# Altium schematic symbol library MCU_ST_STM32MP1.SchLib: 84 symbols (part 3 of 7)
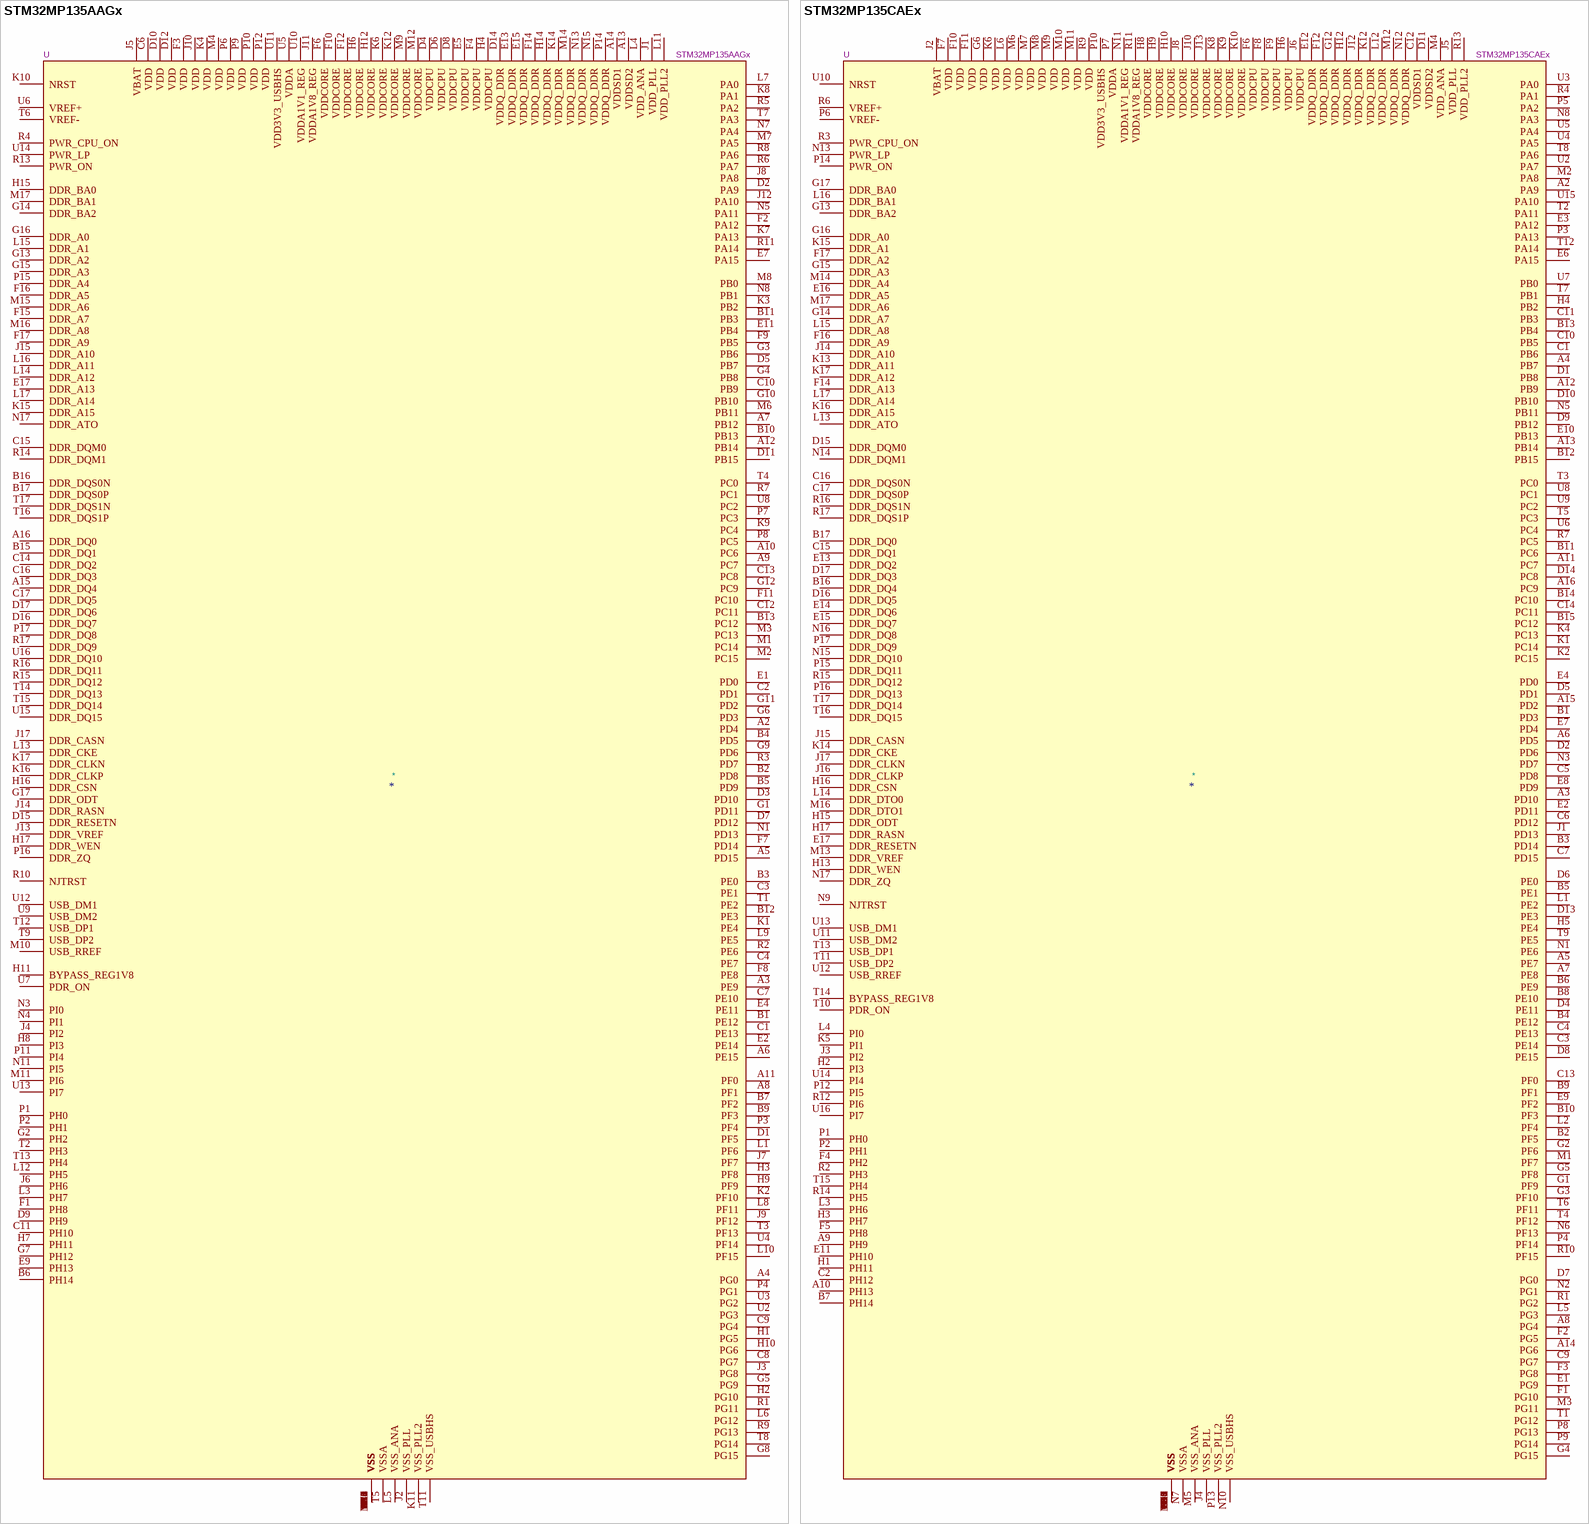
[diagram p62: symbols STM32MP135AAGx to STM32MP135CAEx]

## STM32MP135CAEx
designator *  value STM32MP135CAEx  Reference: U
STMicroelectronics Arm Cortex-A7 MCU, 0KB flash, 168KB RAM, 136 GPIO, LFBGA289; ki_keywords: Arm Cortex-A7 STM32MP1 STM32MP135; ki_fp_filters: LFBGA*14x14mm*Layout17x17*P0.8mm*; Footprint: Package_BGA:LFBGA-289_14x14mm_Layout17x17_P0.8mm; Datasheet: https://www.st.com/resource/en/datasheet/stm32mp135c.pdf; Description_: STMicroelectronics Arm Cortex-A7 MCU, 0KB flash, 168KB RAM, 136 GPIO, LFBGA289
pins: A1 VSS, A2 PA9, A3 PD10, A4 PB7, A5 PE7, A6 PD5, A7 PE8, A8 PG4, A9 PH9, A10 PH13, A11 PC7, A12 PB9, A13 PB14, A14 PG6, A15 PD2, A16 PC9, A17 VSS, B1 PD3, B2 PF5, B3 PD14, B4 PE12, B5 PE1, B6 PE9, B7 PH14, B8 PE10, B9 PF1, B10 PF3, B11 PC6, B12 PB15, B13 PB4, B14 PC10, B15 PC12, B16 DDR_DQ4, B17 DDR_DQ0, C1 PB6, C2 PH12, C3 PE14, C4 PE13, C5 PD8, C6 PD12, C7 PD15, C8 VSS, C9 PG7, C10 PB5, C11 PB3, C12 VDDSD1, C13 PF0, C14 PC11, C15 DDR_DQ1, C16 DDR_DQS0N, C17 DDR_DQS0P, D1 PB8, D2 PD6, D3 VSS, D4 PE11, D5 PD1, D6 PE0, D7 PG0, D8 PE15, D9 PB12, D10 PB10, D11 VDDSD2, D12 VSS, D13 PE3, D14 PC8, D15 DDR_DQM0, D16 DDR_DQ5, D17 DDR_DQ3, E1 PG9, E2 PD11, E3 PA12, E4 PD0, E5 VSS, E6 PA15, E7 PD4, E8 PD9, E9 PF2, E10 PB13, E11 PH10, E12 VDDQ_DDR, E13 DDR_DQ2, E14 DDR_DQ6, E15 DDR_DQ7, E16 DDR_A5, E17 DDR_RESETN, F1 PG10, F2 PG5, F3 PG8, F4 PH2, F5 PH8, F6 VDDCPU, F7 VDD, F8 VDDCPU, F9 VDDCPU, F10 VDD, F11 VDD, F12 VDDQ_DDR, F13 VSS, F14 DDR_A13, F15 VSS, F16 DDR_A9, F17 DDR_A2, G1 PF9, G2 PF6, G3 PF10, G4 PG15, G5 PF8, G6 VDD, G7 VSS, G8 VSS, G9 VSS, G10 VSS, G11 VSS, G12 VDDQ_DDR, G13 DDR_BA2, G14 DDR_A7, G15 DDR_A3, G16 DDR_A0, G17 DDR_BA0, H1 PH11, H2 PI3, H3 PH7, H4 PB2, H5 PE4, H6 VDDCPU, H7 VSS, H8 VDDCORE, H9 VDDCORE, H10 VDDCORE, H11 VSS, H12 VDDQ_DDR, H13 DDR_WEN, H14 VSS, H15 DDR_ODT, H16 DDR_CSN, H17 DDR_RASN, J1 PD13, J2 VBAT, J3 PI2, J4 VSS_PLL, J5 VDD_PLL, J6 VDDCPU, J7 VSS, J8 VDDCORE, J9 VSS, J10 VDDCORE, J11 VSS, J12 VDDQ_DDR, J13 VDDCORE, J14 DDR_A10, J15 DDR_CASN, J16 DDR_CLKP, J17 DDR_CLKN, K1 PC14, K2 PC15, K3 VSS, K4 PC13, K5 PI1, K6 VDD, K7 VSS, K8 VDDCORE, K9 VDDCORE, K10 VDDCORE, K11 VSS, K12 VDDQ_DDR, K13 DDR_A11, K14 DDR_CKE, K15 DDR_A1, K16 DDR_A15, K17 DDR_A12, L1 PE2, L2 PF4, L3 PH6, L4 PI0, L5 PG3, L6 VDD, L7 VSS, L8 VSS, L9 VSS, L10 VSS, L11 VSS, L12 VDDQ_DDR, L13 DDR_ATO, L14 DDR_DTO0, L15 DDR_A8, L16 DDR_BA1, L17 DDR_A14, M1 PF7, M2 PA8, M3 PG11, M4 VDD_ANA, M5 VSS_ANA, M6 VDD, M7 VDD, M8 VDD, M9 VDD, M10 VDD, M11 VDD, M12 VDDQ_DDR, M13 DDR_VREF, M14 DDR_A4, M15 VSS, M16 DDR_DTO1, M17 DDR_A6, N1 PE6, N2 PG1, N3 PD7, N4 VSS, N5 PB11, N6 PF13, N7 VSSA, N8 PA3, N9 NJTRST, N10 VSS_USBHS, N11 VDDA1V1_REG, N12 VDDQ_DDR, N13 PWR_LP, N14 DDR_DQM1, N15 DDR_DQ10, N16 DDR_DQ8, N17 DDR_ZQ, P1 PH0, P2 PH1, P3 PA13, P4 PF14, P5 PA2, P6 VREF-, P7 VDDA, P8 PG13, P9 PG14, P10 VDD3V3_USBHS, P11 VSS, P12 PI5, P13 VSS_PLL2, P14 PWR_ON, P15 DDR_DQ11, P16 DDR_DQ13, P17 DDR_DQ9, R1 PG2, R2 PH3, R3 PWR_CPU_ON, R4 PA1, R5 VSS, R6 VREF+, R7 PC5, R8 VSS, R9 VDD, R10 PF15, R11 VDDA1V8_REG, R12 PI6, R13 VDD_PLL2, R14 PH5, R15 DDR_DQ12, R16 DDR_DQS1N, R17 DDR_DQS1P, T1 PG12, T2 PA11, T3 PC0, T4 PF12, T5 PC3, T6 PF11, T7 PB1, T8 PA6, T9 PE5, T10 PDR_ON, T11 USB_DP2, T12 PA14, T13 USB_DP1, T14 BYPASS_REG1V8, T15 PH4, T16 DDR_DQ15, T17 DDR_DQ14, U1 VSS, U2 PA7, U3 PA0, U4 PA5, U5 PA4, U6 PC4, U7 PB0, U8 PC1, U9 PC2, U10 NRST, U11 USB_DM2, U12 USB_RREF, U13 USB_DM1, U14 PI4, U15 PA10, U16 PI7, U17 VSS

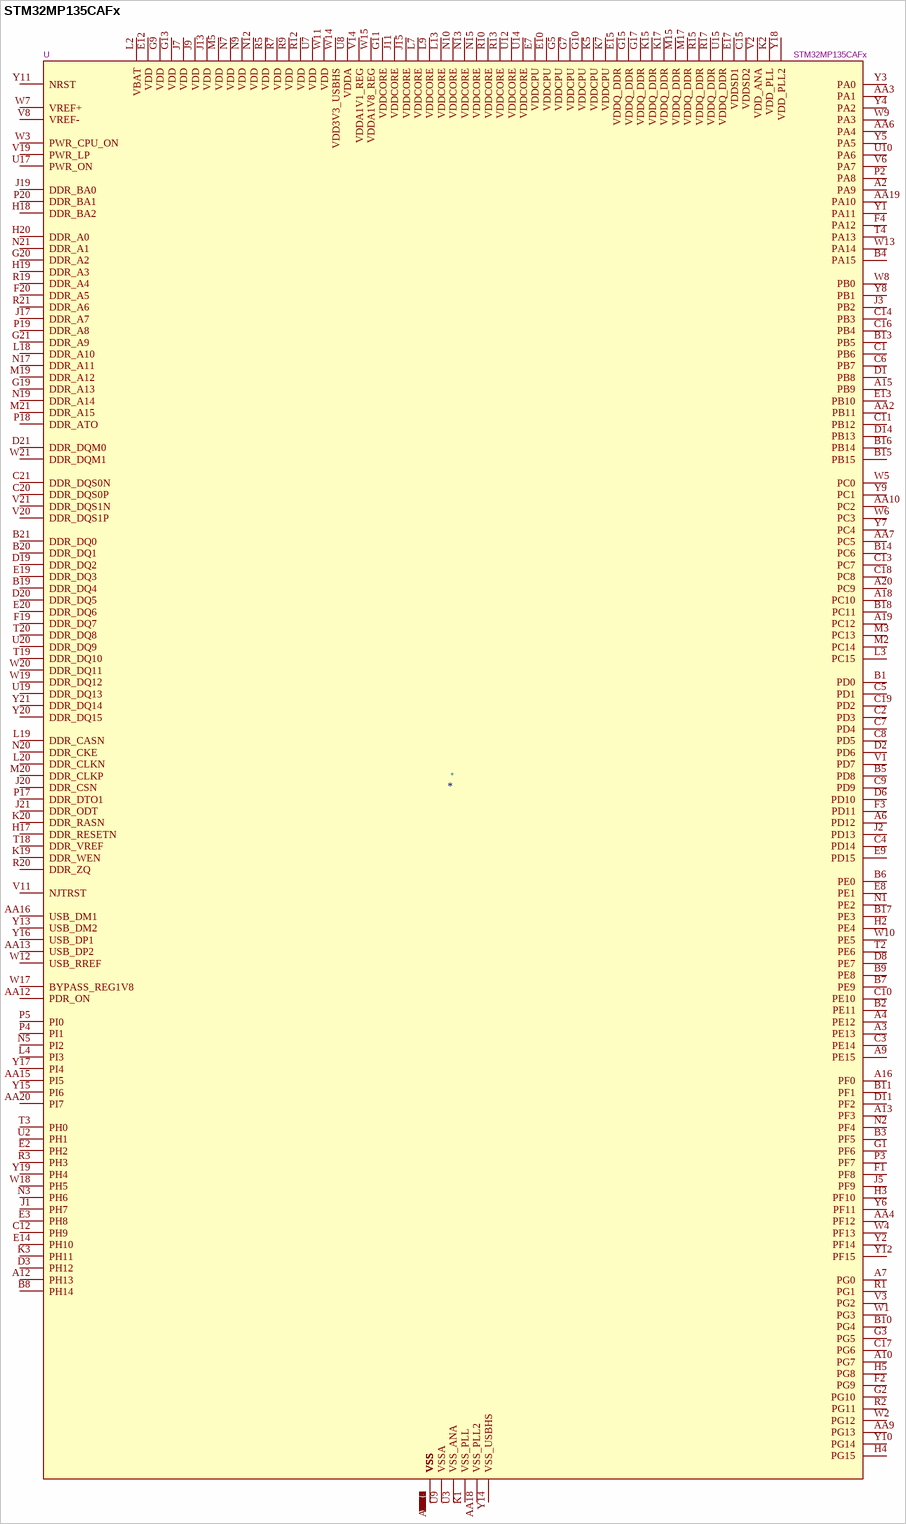
[diagram p19: symbol STM32MP135CAFx]

## STM32MP135CAFx
designator *  value STM32MP135CAFx  Reference: U
STMicroelectronics Arm Cortex-A7 MCU, 0KB flash, 168KB RAM, 136 GPIO, TFBGA320; ki_keywords: Arm Cortex-A7 STM32MP1 STM32MP135; ki_fp_filters: ST*TFBGA*11x11mm*Layout21x21*P0.5mm*; Footprint: Package_BGA:ST_TFBGA-320_11x11mm_Layout21x21_P0.5mm; Datasheet: https://www.st.com/resource/en/datasheet/stm32mp135c.pdf; Description_: STMicroelectronics Arm Cortex-A7 MCU, 0KB flash, 168KB RAM, 136 GPIO, TFBGA320
pins: A1 VSS, A2 PA9, A3 PE13, A4 PE12, A6 PD12, A7 PG0, A9 PE15, A10 PG7, A12 PH13, A13 PF3, A15 PB9, A16 PF0, A18 PC10, A19 PC12, A20 PC9, A21 VSS, AA1 VSS, AA2 PB11, AA3 PA1, AA4 PF12, AA6 PA4, AA7 PC5, AA9 PG13, AA10 PC2, AA12 PDR_ON, AA13 USB_DP2, AA15 PI5, AA16 USB_DM1, AA18 VSS_PLL2, AA19 PA10, AA20 PI7, AA21 VSS, B1 PD0, B2 PE11, B3 PF5, B4 PA15, B5 PD8, B6 PE0, B7 PE9, B8 PH14, B9 PE8, B10 PG4, B11 PF1, B12 VSS, B13 PB5, B14 PC6, B15 PB15, B16 PB14, B17 PE3, B18 PC11, B19 DDR_DQ4, B20 DDR_DQ1, B21 DDR_DQ0, C1 PB6, C2 PD3, C3 PE14, C4 PD14, C5 PD1, C6 PB7, C7 PD4, C8 PD5, C9 PD9, C10 PE10, C11 PB12, C12 PH9, C13 PC7, C14 PB3, C15 VDDSD2, C16 PB4, C17 PG6, C18 PC8, C19 PD2, C20 DDR_DQS0P, C21 DDR_DQS0N, D1 PB8, D2 PD6, D3 PH12, D6 PD10, D8 PE7, D11 PF2, D14 PB13, D16 VSS, D19 DDR_DQ2, D20 DDR_DQ5, D21 DDR_DQM0, E2 PH2, E3 PH8, E5 VSS, E6 VSS, E7 VDDCPU, E8 PE1, E9 PD15, E10 VDDCPU, E11 VSS, E12 VDD, E13 PB10, E14 PH10, E15 VDDQ_DDR, E16 VSS, E17 VDDSD1, E19 DDR_DQ3, E20 DDR_DQ6, F1 PF8, F2 PG9, F3 PD11, F4 PA12, F5 VSS, F17 VSS, F18 VSS, F19 DDR_DQ7, F20 DDR_A5, F21 VSS, G1 PF6, G2 PG10, G3 PG5, G5 VDDCPU, G7 VDDCPU, G8 VSS, G9 VDD, G10 VDDCPU, G11 VDDCORE, G12 VSS, G13 VDD, G14 VSS, G15 VDDQ_DDR, G17 VDDQ_DDR, G19 DDR_A13, G20 DDR_A2, G21 DDR_A9, H2 PE4, H3 PF10, H4 PG15, H5 PG8, H7 VSS, H15 VSS, H17 DDR_RESETN, H18 DDR_BA2, H19 DDR_A3, H20 DDR_A0, J1 PH7, J2 PD13, J3 PB2, J5 PF9, J7 VDD, J9 VDD, J10 VSS, J11 VDDCORE, J12 VSS, J13 VDD, J15 VDDCORE, J17 DDR_A7, J19 DDR_BA0, J20 DDR_CSN, J21 DDR_ODT, K1 VSS_PLL, K2 VDD_PLL, K3 PH11, K5 VDDCPU, K7 VDDCPU, K9 VSS, K10 VSS, K11 VSS, K12 VSS, K13 VSS, K15 VDDQ_DDR, K17 VDDQ_DDR, K19 DDR_WEN, K20 DDR_RASN, K21 VSS, L2 VBAT, L3 PC15, L4 PI3, L5 VSS, L7 VDDCORE, L9 VDDCORE, L10 VSS, L12 VSS, L13 VDDCORE, L15 VSS, L17 VSS, L18 DDR_A10, L19 DDR_CASN, L20 DDR_CLKN, M1 VSS, M2 PC14, M3 PC13, M5 VDD, M7 VSS, M9 VSS, M10 VSS, M11 VSS, M12 VSS, M13 VSS, M15 VDDQ_DDR, M17 VDDQ_DDR, M19 DDR_A12, M20 DDR_CLKP, M21 DDR_A15, N1 PE2, N2 PF4, N3 PH6, N5 PI2, N7 VDD, N9 VDD, N10 VDDCORE, N11 VSS, N12 VDD, N13 VDDCORE, N15 VDDCORE, N17 DDR_A11, N19 DDR_A14, N20 DDR_CKE, N21 DDR_A1, P2 PA8, P3 PF7, P4 PI1, P5 PI0, P7 VSS, P15 VSS, P17 DDR_DTO1, P18 DDR_ATO, P19 DDR_A8, P20 DDR_BA1, R1 PG1, R2 PG11, R3 PH3, R5 VDD, R7 VDD, R8 VSS, R9 VDD, R10 VDDCORE, R11 VSS, R12 VDD, R13 VDDCORE, R14 VSS, R15 VDDQ_DDR, R17 VDDQ_DDR, R19 DDR_A4, R20 DDR_ZQ, R21 DDR_A6, T1 VSS, T2 PE6, T3 PH0, T4 PA13, T5 VSS, T17 VSS, T18 DDR_VREF, T19 DDR_DQ10, T20 DDR_DQ8, T21 VSS, U2 PH1, U3 VSS_ANA, U5 VSS, U6 VSS, U7 VDD, U8 VDDA, U9 VSSA, U10 PA6, U11 VSS, U12 VDDCORE, U13 VSS, U14 VDDCORE, U15 VDDQ_DDR, U16 VSS, U17 PWR_ON, U19 DDR_DQ13, U20 DDR_DQ9, V1 PD7, V2 VDD_ANA, V3 PG2, V6 PA7, V8 VREF-, V11 NJTRST, V14 VDDA1V1_REG, V16 VSS, V19 PWR_LP, V20 DDR_DQS1P, V21 DDR_DQS1N, W1 PG3, W2 PG12, W3 PWR_CPU_ON, W4 PF13, W5 PC0, W6 PC3, W7 VREF+, W8 PB0, W9 PA3, W10 PE5, W11 VDD, W12 USB_RREF, W13 PA14, W14 VDD3V3_USBHS, W15 VDDA1V8_REG, W16 VSS, W17 BYPASS_REG1V8, W18 PH5, W19 DDR_DQ12, W20 DDR_DQ11, W21 DDR_DQM1, Y1 PA11, Y2 PF14, Y3 PA0, Y4 PA2, Y5 PA5, Y6 PF11, Y7 PC4, Y8 PB1, Y9 PC1, Y10 PG14, Y11 NRST, Y12 PF15, Y13 USB_DM2, Y14 VSS_USBHS, Y15 PI6, Y16 USB_DP1, Y17 PI4, Y18 VDD_PLL2, Y19 PH4, Y20 DDR_DQ15, Y21 DDR_DQ14

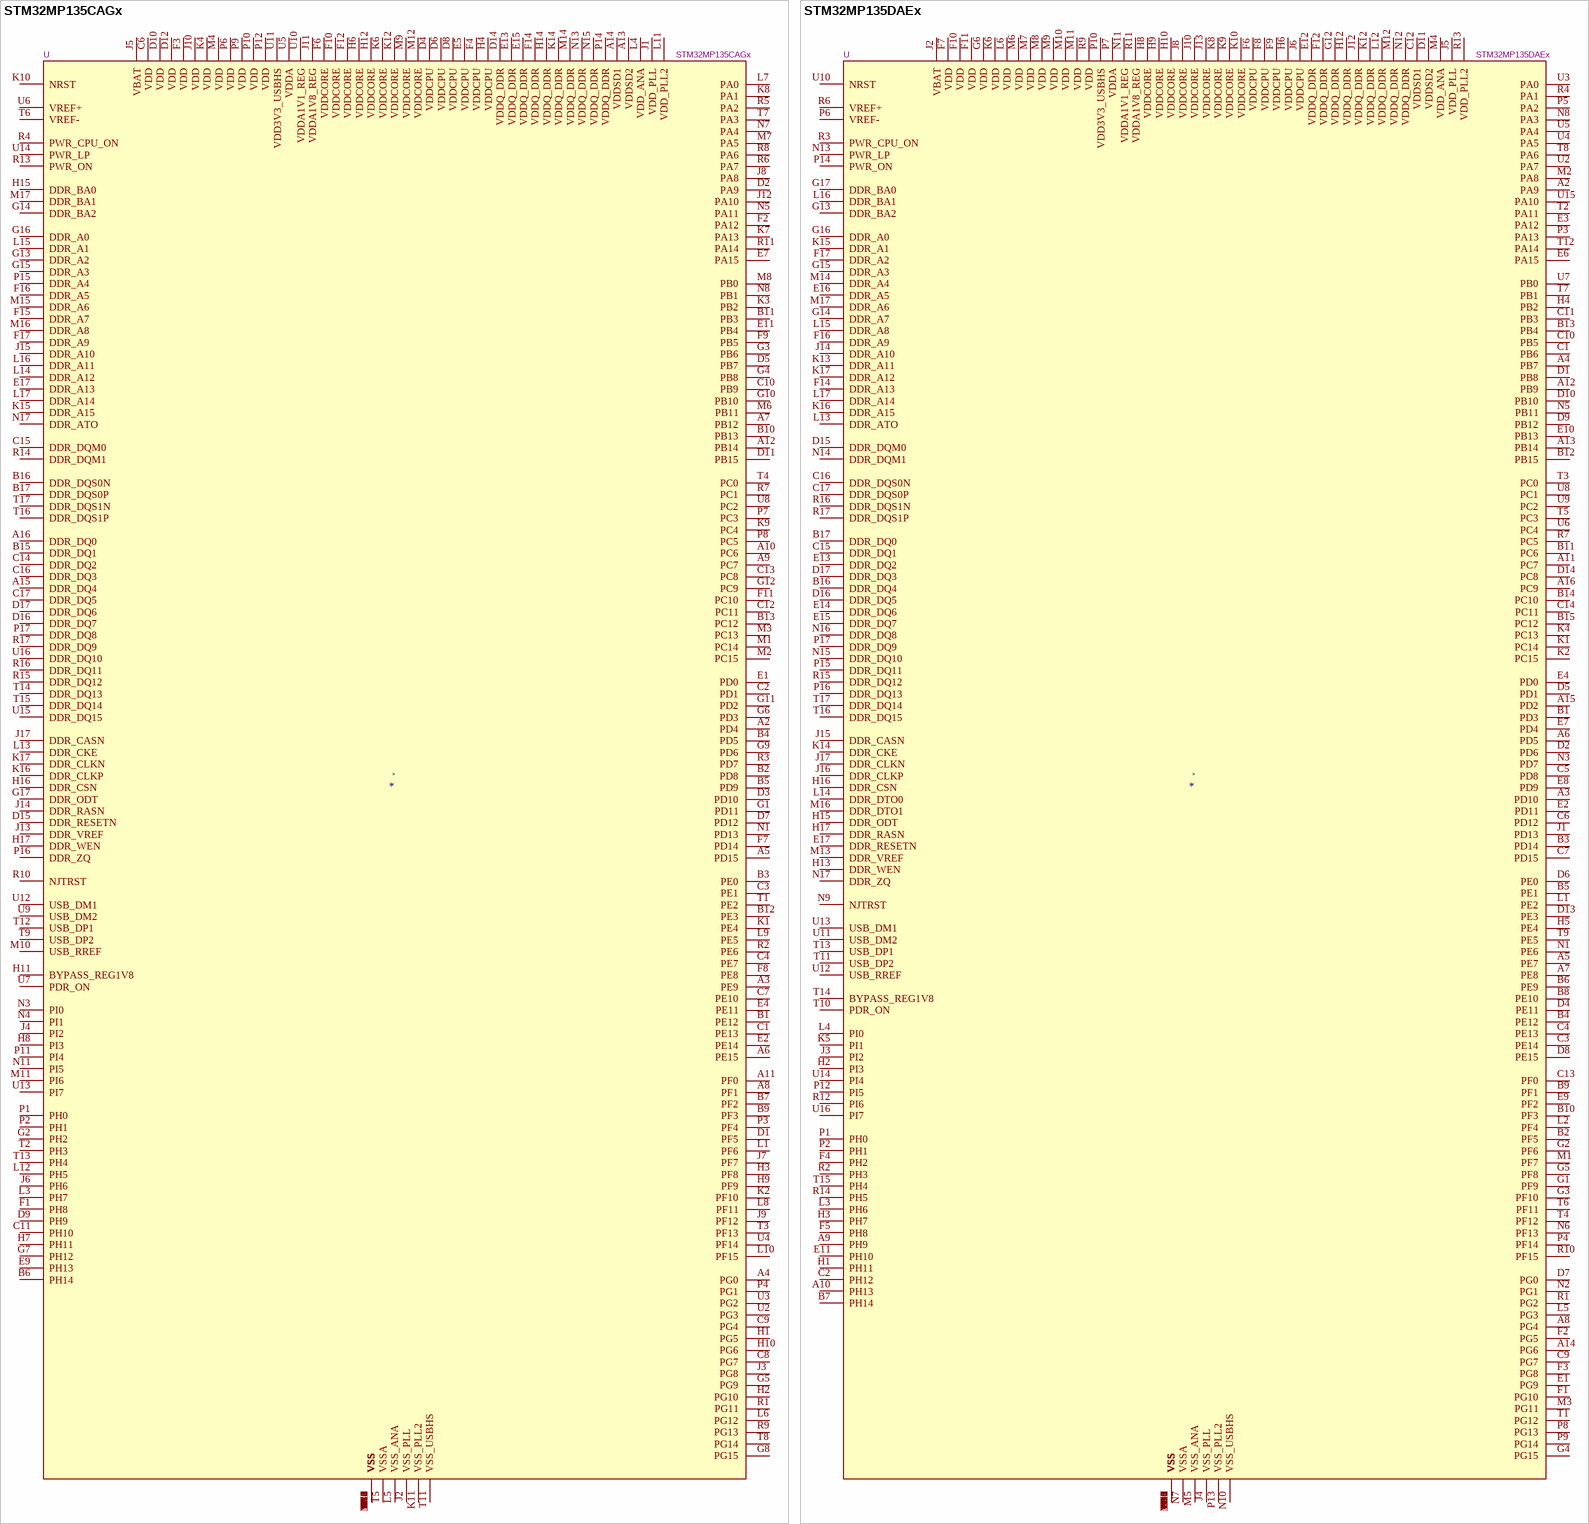
[diagram p20: symbols STM32MP135CAGx to STM32MP135DAEx]

## STM32MP135CAGx
designator *  value STM32MP135CAGx  Reference: U
STMicroelectronics Arm Cortex-A7 MCU, 0KB flash, 168KB RAM, 136 GPIO, TFBGA289; ki_keywords: Arm Cortex-A7 STM32MP1 STM32MP135; ki_fp_filters: TFBGA*9x9mm*Layout17x17*P0.5mm*; Footprint: Package_BGA:TFBGA-289_9x9mm_Layout17x17_P0.5mm; Datasheet: https://www.st.com/resource/en/datasheet/stm32mp135c.pdf; Description_: STMicroelectronics Arm Cortex-A7 MCU, 0KB flash, 168KB RAM, 136 GPIO, TFBGA289
pins: A1 VSS, A2 PD4, A3 PE9, A4 PG0, A5 PD15, A6 PE15, A7 PB12, A8 PF1, A9 PC7, A10 PC6, A11 PF0, A12 PB14, A13 VDDSD2, A14 VDDSD1, A15 DDR_DQ4, A16 DDR_DQ0, A17 VSS, B1 PE12, B2 PD8, B3 PE0, B4 PD5, B5 PD9, B6 PH14, B7 PF2, B8 VSS, B9 PF3, B10 PB13, B11 PB3, B12 PE3, B13 PC12, B14 VSS, B15 DDR_DQ1, B16 DDR_DQS0N, B17 DDR_DQS0P, C1 PE13, C2 PD1, C3 PE1, C4 PE7, C5 VSS, C6 VDD, C7 PE10, C8 PG7, C9 PG4, C10 PB9, C11 PH10, C12 PC11, C13 PC8, C14 DDR_DQ2, C15 DDR_DQM0, C16 DDR_DQ3, C17 DDR_DQ5, D1 PF5, D2 PA9, D3 PD10, D4 VDDCPU, D5 PB7, D6 VDDCPU, D7 PD12, D8 VDDCPU, D9 PH9, D10 VDD, D11 PB15, D12 VDD, D13 VSS, D14 VDDQ_DDR, D15 DDR_RESETN, D16 DDR_DQ7, D17 DDR_DQ6, E1 PD0, E2 PE14, E3 VSS, E4 PE11, E5 VDDCPU, E6 VSS, E7 PA15, E8 VSS, E9 PH13, E10 VSS, E11 PB4, E12 VSS, E13 VDDQ_DDR, E14 VSS, E15 VDDQ_DDR, E16 VSS, E17 DDR_A13, F1 PH8, F2 PA12, F3 VDD, F4 VDDCPU, F5 VSS, F6 VDDCORE, F7 PD14, F8 PE8, F9 PB5, F10 VDDCORE, F11 PC10, F12 VDDCORE, F13 VSS, F14 VDDQ_DDR, F15 DDR_A7, F16 DDR_A5, F17 DDR_A9, G1 PD11, G2 PH2, G3 PB6, G4 PB8, G5 PG9, G6 PD3, G7 PH12, G8 PG15, G9 PD6, G10 PB10, G11 PD2, G12 PC9, G13 DDR_A2, G14 DDR_BA2, G15 DDR_A3, G16 DDR_A0, G17 DDR_ODT, H1 PG5, H2 PG10, H3 PF8, H4 VDDCPU, H5 VSS, H6 VDDCORE, H7 PH11, H8 PI3, H9 PF9, H10 PG6, H11 BYPASS_REG1V8, H12 VDDCORE, H13 VSS, H14 VDDQ_DDR, H15 DDR_BA0, H16 DDR_CSN, H17 DDR_WEN, J1 VDD_PLL, J2 VSS_PLL, J3 PG8, J4 PI2, J5 VBAT, J6 PH6, J7 PF7, J8 PA8, J9 PF12, J10 VDD, J11 VDDA1V8_REG, J12 PA10, J13 DDR_VREF, J14 DDR_RASN, J15 DDR_A10, J16 VSS, J17 DDR_CASN, K1 PE4, K2 PF10, K3 PB2, K4 VDD, K5 VSS, K6 VDDCORE, K7 PA13, K8 PA1, K9 PC4, K10 NRST, K11 VSS_PLL2, K12 VDDCORE, K13 VSS, K14 VDDQ_DDR, K15 DDR_A15, K16 DDR_CLKP, K17 DDR_CLKN, L1 PF6, L2 VSS, L3 PH7, L4 VDD_ANA, L5 VSS_ANA, L6 PG12, L7 PA0, L8 PF11, L9 PE5, L10 PF15, L11 VDD_PLL2, L12 PH5, L13 DDR_CKE, L14 DDR_A12, L15 DDR_A1, L16 DDR_A11, L17 DDR_A14, M1 PC14, M2 PC15, M3 PC13, M4 VDD, M5 VSS, M6 PB11, M7 PA5, M8 PB0, M9 VDDCORE, M10 USB_RREF, M11 PI6, M12 VDDCORE, M13 VSS, M14 VDDQ_DDR, M15 DDR_A6, M16 DDR_A8, M17 DDR_BA1, N1 PD13, N2 VSS, N3 PI0, N4 PI1, N5 PA11, N6 VSS, N7 PA4, N8 PB1, N9 VSS, N10 VSS, N11 PI5, N12 VSS, N13 VDDQ_DDR, N14 VSS, N15 VDDQ_DDR, N16 VSS, N17 DDR_ATO, P1 PH0, P2 PH1, P3 PF4, P4 PG1, P5 VSS, P6 VDD, P7 PC3, P8 PC5, P9 VDD, P10 VDD, P11 PI4, P12 VDD, P13 VSS, P14 VDDQ_DDR, P15 DDR_A4, P16 DDR_ZQ, P17 DDR_DQ8, R1 PG11, R2 PE6, R3 PD7, R4 PWR_CPU_ON, R5 PA2, R6 PA7, R7 PC1, R8 PA6, R9 PG13, R10 NJTRST, R11 PA14, R12 VSS, R13 PWR_ON, R14 DDR_DQM1, R15 DDR_DQ12, R16 DDR_DQ11, R17 DDR_DQ9, T1 PE2, T2 PH3, T3 PF13, T4 PC0, T5 VSSA, T6 VREF-, T7 PA3, T8 PG14, T9 USB_DP2, T10 VSS, T11 VSS_USBHS, T12 USB_DP1, T13 PH4, T14 DDR_DQ13, T15 DDR_DQ14, T16 DDR_DQS1P, T17 DDR_DQS1N, U1 VSS, U2 PG3, U3 PG2, U4 PF14, U5 VDDA, U6 VREF+, U7 PDR_ON, U8 PC2, U9 USB_DM2, U10 VDDA1V1_REG, U11 VDD3V3_USBHS, U12 USB_DM1, U13 PI7, U14 PWR_LP, U15 DDR_DQ15, U16 DDR_DQ10, U17 VSS

## STM32MP135DAEx
designator *  value STM32MP135DAEx  Reference: U
STMicroelectronics Arm Cortex-A7 MCU, 0KB flash, 168KB RAM, 136 GPIO, LFBGA289; ki_keywords: Arm Cortex-A7 STM32MP1 STM32MP135; ki_fp_filters: LFBGA*14x14mm*Layout17x17*P0.8mm*; Footprint: Package_BGA:LFBGA-289_14x14mm_Layout17x17_P0.8mm; Datasheet: https://www.st.com/resource/en/datasheet/stm32mp135d.pdf; Description_: STMicroelectronics Arm Cortex-A7 MCU, 0KB flash, 168KB RAM, 136 GPIO, LFBGA289
pins: A1 VSS, A2 PA9, A3 PD10, A4 PB7, A5 PE7, A6 PD5, A7 PE8, A8 PG4, A9 PH9, A10 PH13, A11 PC7, A12 PB9, A13 PB14, A14 PG6, A15 PD2, A16 PC9, A17 VSS, B1 PD3, B2 PF5, B3 PD14, B4 PE12, B5 PE1, B6 PE9, B7 PH14, B8 PE10, B9 PF1, B10 PF3, B11 PC6, B12 PB15, B13 PB4, B14 PC10, B15 PC12, B16 DDR_DQ4, B17 DDR_DQ0, C1 PB6, C2 PH12, C3 PE14, C4 PE13, C5 PD8, C6 PD12, C7 PD15, C8 VSS, C9 PG7, C10 PB5, C11 PB3, C12 VDDSD1, C13 PF0, C14 PC11, C15 DDR_DQ1, C16 DDR_DQS0N, C17 DDR_DQS0P, D1 PB8, D2 PD6, D3 VSS, D4 PE11, D5 PD1, D6 PE0, D7 PG0, D8 PE15, D9 PB12, D10 PB10, D11 VDDSD2, D12 VSS, D13 PE3, D14 PC8, D15 DDR_DQM0, D16 DDR_DQ5, D17 DDR_DQ3, E1 PG9, E2 PD11, E3 PA12, E4 PD0, E5 VSS, E6 PA15, E7 PD4, E8 PD9, E9 PF2, E10 PB13, E11 PH10, E12 VDDQ_DDR, E13 DDR_DQ2, E14 DDR_DQ6, E15 DDR_DQ7, E16 DDR_A5, E17 DDR_RESETN, F1 PG10, F2 PG5, F3 PG8, F4 PH2, F5 PH8, F6 VDDCPU, F7 VDD, F8 VDDCPU, F9 VDDCPU, F10 VDD, F11 VDD, F12 VDDQ_DDR, F13 VSS, F14 DDR_A13, F15 VSS, F16 DDR_A9, F17 DDR_A2, G1 PF9, G2 PF6, G3 PF10, G4 PG15, G5 PF8, G6 VDD, G7 VSS, G8 VSS, G9 VSS, G10 VSS, G11 VSS, G12 VDDQ_DDR, G13 DDR_BA2, G14 DDR_A7, G15 DDR_A3, G16 DDR_A0, G17 DDR_BA0, H1 PH11, H2 PI3, H3 PH7, H4 PB2, H5 PE4, H6 VDDCPU, H7 VSS, H8 VDDCORE, H9 VDDCORE, H10 VDDCORE, H11 VSS, H12 VDDQ_DDR, H13 DDR_WEN, H14 VSS, H15 DDR_ODT, H16 DDR_CSN, H17 DDR_RASN, J1 PD13, J2 VBAT, J3 PI2, J4 VSS_PLL, J5 VDD_PLL, J6 VDDCPU, J7 VSS, J8 VDDCORE, J9 VSS, J10 VDDCORE, J11 VSS, J12 VDDQ_DDR, J13 VDDCORE, J14 DDR_A10, J15 DDR_CASN, J16 DDR_CLKP, J17 DDR_CLKN, K1 PC14, K2 PC15, K3 VSS, K4 PC13, K5 PI1, K6 VDD, K7 VSS, K8 VDDCORE, K9 VDDCORE, K10 VDDCORE, K11 VSS, K12 VDDQ_DDR, K13 DDR_A11, K14 DDR_CKE, K15 DDR_A1, K16 DDR_A15, K17 DDR_A12, L1 PE2, L2 PF4, L3 PH6, L4 PI0, L5 PG3, L6 VDD, L7 VSS, L8 VSS, L9 VSS, L10 VSS, L11 VSS, L12 VDDQ_DDR, L13 DDR_ATO, L14 DDR_DTO0, L15 DDR_A8, L16 DDR_BA1, L17 DDR_A14, M1 PF7, M2 PA8, M3 PG11, M4 VDD_ANA, M5 VSS_ANA, M6 VDD, M7 VDD, M8 VDD, M9 VDD, M10 VDD, M11 VDD, M12 VDDQ_DDR, M13 DDR_VREF, M14 DDR_A4, M15 VSS, M16 DDR_DTO1, M17 DDR_A6, N1 PE6, N2 PG1, N3 PD7, N4 VSS, N5 PB11, N6 PF13, N7 VSSA, N8 PA3, N9 NJTRST, N10 VSS_USBHS, N11 VDDA1V1_REG, N12 VDDQ_DDR, N13 PWR_LP, N14 DDR_DQM1, N15 DDR_DQ10, N16 DDR_DQ8, N17 DDR_ZQ, P1 PH0, P2 PH1, P3 PA13, P4 PF14, P5 PA2, P6 VREF-, P7 VDDA, P8 PG13, P9 PG14, P10 VDD3V3_USBHS, P11 VSS, P12 PI5, P13 VSS_PLL2, P14 PWR_ON, P15 DDR_DQ11, P16 DDR_DQ13, P17 DDR_DQ9, R1 PG2, R2 PH3, R3 PWR_CPU_ON, R4 PA1, R5 VSS, R6 VREF+, R7 PC5, R8 VSS, R9 VDD, R10 PF15, R11 VDDA1V8_REG, R12 PI6, R13 VDD_PLL2, R14 PH5, R15 DDR_DQ12, R16 DDR_DQS1N, R17 DDR_DQS1P, T1 PG12, T2 PA11, T3 PC0, T4 PF12, T5 PC3, T6 PF11, T7 PB1, T8 PA6, T9 PE5, T10 PDR_ON, T11 USB_DP2, T12 PA14, T13 USB_DP1, T14 BYPASS_REG1V8, T15 PH4, T16 DDR_DQ15, T17 DDR_DQ14, U1 VSS, U2 PA7, U3 PA0, U4 PA5, U5 PA4, U6 PC4, U7 PB0, U8 PC1, U9 PC2, U10 NRST, U11 USB_DM2, U12 USB_RREF, U13 USB_DM1, U14 PI4, U15 PA10, U16 PI7, U17 VSS

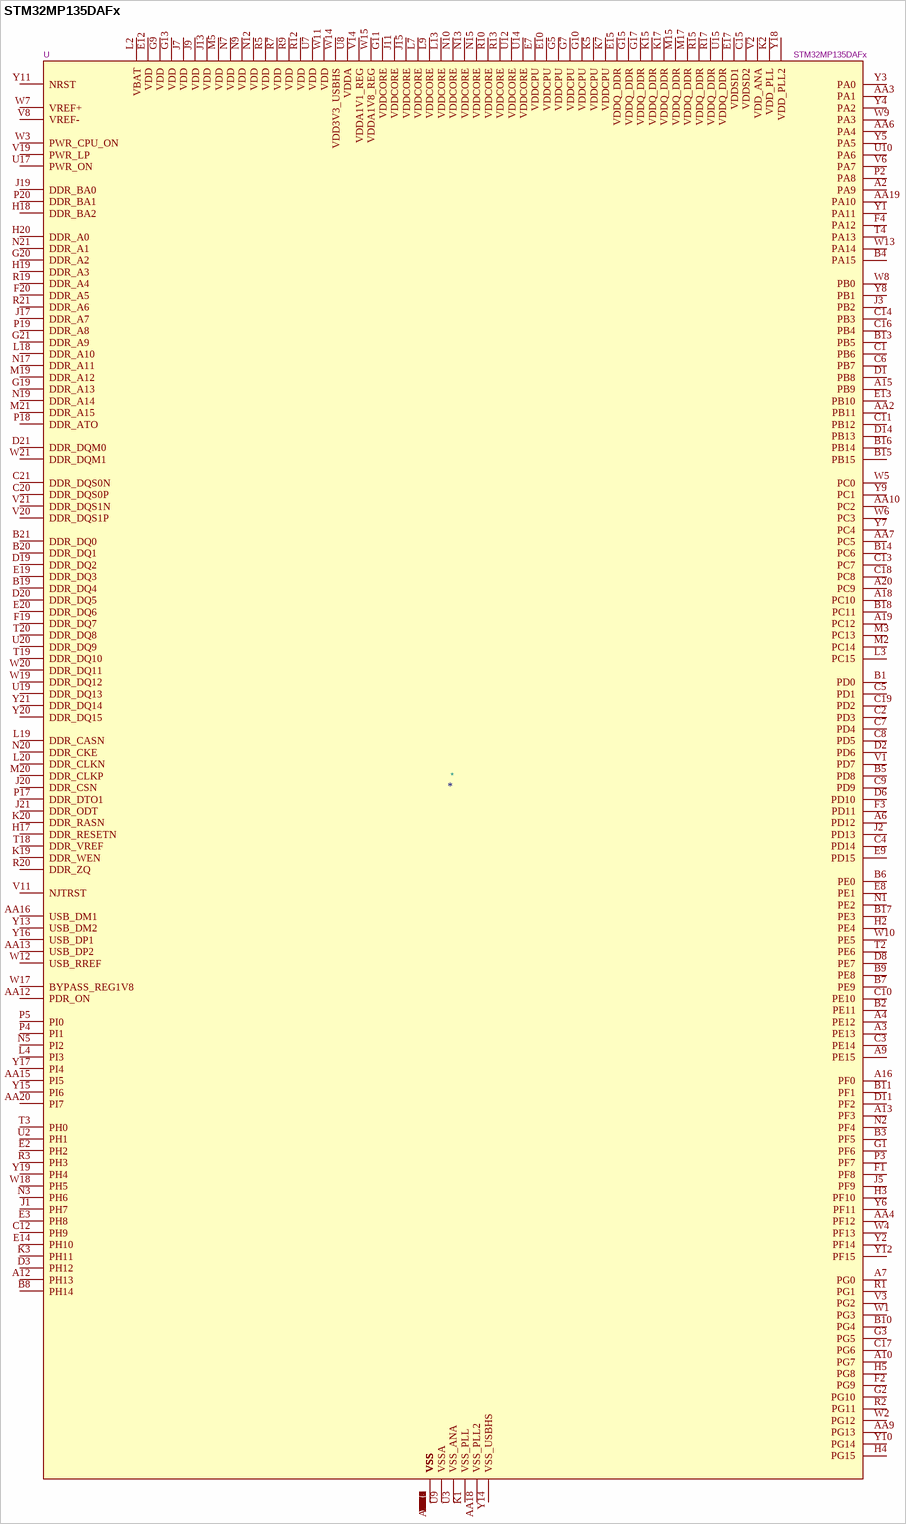
[diagram p21: symbol STM32MP135DAFx]

## STM32MP135DAFx
designator *  value STM32MP135DAFx  Reference: U
STMicroelectronics Arm Cortex-A7 MCU, 0KB flash, 168KB RAM, 136 GPIO, TFBGA320; ki_keywords: Arm Cortex-A7 STM32MP1 STM32MP135; ki_fp_filters: ST*TFBGA*11x11mm*Layout21x21*P0.5mm*; Footprint: Package_BGA:ST_TFBGA-320_11x11mm_Layout21x21_P0.5mm; Datasheet: https://www.st.com/resource/en/datasheet/stm32mp135d.pdf; Description_: STMicroelectronics Arm Cortex-A7 MCU, 0KB flash, 168KB RAM, 136 GPIO, TFBGA320
pins: A1 VSS, A2 PA9, A3 PE13, A4 PE12, A6 PD12, A7 PG0, A9 PE15, A10 PG7, A12 PH13, A13 PF3, A15 PB9, A16 PF0, A18 PC10, A19 PC12, A20 PC9, A21 VSS, AA1 VSS, AA2 PB11, AA3 PA1, AA4 PF12, AA6 PA4, AA7 PC5, AA9 PG13, AA10 PC2, AA12 PDR_ON, AA13 USB_DP2, AA15 PI5, AA16 USB_DM1, AA18 VSS_PLL2, AA19 PA10, AA20 PI7, AA21 VSS, B1 PD0, B2 PE11, B3 PF5, B4 PA15, B5 PD8, B6 PE0, B7 PE9, B8 PH14, B9 PE8, B10 PG4, B11 PF1, B12 VSS, B13 PB5, B14 PC6, B15 PB15, B16 PB14, B17 PE3, B18 PC11, B19 DDR_DQ4, B20 DDR_DQ1, B21 DDR_DQ0, C1 PB6, C2 PD3, C3 PE14, C4 PD14, C5 PD1, C6 PB7, C7 PD4, C8 PD5, C9 PD9, C10 PE10, C11 PB12, C12 PH9, C13 PC7, C14 PB3, C15 VDDSD2, C16 PB4, C17 PG6, C18 PC8, C19 PD2, C20 DDR_DQS0P, C21 DDR_DQS0N, D1 PB8, D2 PD6, D3 PH12, D6 PD10, D8 PE7, D11 PF2, D14 PB13, D16 VSS, D19 DDR_DQ2, D20 DDR_DQ5, D21 DDR_DQM0, E2 PH2, E3 PH8, E5 VSS, E6 VSS, E7 VDDCPU, E8 PE1, E9 PD15, E10 VDDCPU, E11 VSS, E12 VDD, E13 PB10, E14 PH10, E15 VDDQ_DDR, E16 VSS, E17 VDDSD1, E19 DDR_DQ3, E20 DDR_DQ6, F1 PF8, F2 PG9, F3 PD11, F4 PA12, F5 VSS, F17 VSS, F18 VSS, F19 DDR_DQ7, F20 DDR_A5, F21 VSS, G1 PF6, G2 PG10, G3 PG5, G5 VDDCPU, G7 VDDCPU, G8 VSS, G9 VDD, G10 VDDCPU, G11 VDDCORE, G12 VSS, G13 VDD, G14 VSS, G15 VDDQ_DDR, G17 VDDQ_DDR, G19 DDR_A13, G20 DDR_A2, G21 DDR_A9, H2 PE4, H3 PF10, H4 PG15, H5 PG8, H7 VSS, H15 VSS, H17 DDR_RESETN, H18 DDR_BA2, H19 DDR_A3, H20 DDR_A0, J1 PH7, J2 PD13, J3 PB2, J5 PF9, J7 VDD, J9 VDD, J10 VSS, J11 VDDCORE, J12 VSS, J13 VDD, J15 VDDCORE, J17 DDR_A7, J19 DDR_BA0, J20 DDR_CSN, J21 DDR_ODT, K1 VSS_PLL, K2 VDD_PLL, K3 PH11, K5 VDDCPU, K7 VDDCPU, K9 VSS, K10 VSS, K11 VSS, K12 VSS, K13 VSS, K15 VDDQ_DDR, K17 VDDQ_DDR, K19 DDR_WEN, K20 DDR_RASN, K21 VSS, L2 VBAT, L3 PC15, L4 PI3, L5 VSS, L7 VDDCORE, L9 VDDCORE, L10 VSS, L12 VSS, L13 VDDCORE, L15 VSS, L17 VSS, L18 DDR_A10, L19 DDR_CASN, L20 DDR_CLKN, M1 VSS, M2 PC14, M3 PC13, M5 VDD, M7 VSS, M9 VSS, M10 VSS, M11 VSS, M12 VSS, M13 VSS, M15 VDDQ_DDR, M17 VDDQ_DDR, M19 DDR_A12, M20 DDR_CLKP, M21 DDR_A15, N1 PE2, N2 PF4, N3 PH6, N5 PI2, N7 VDD, N9 VDD, N10 VDDCORE, N11 VSS, N12 VDD, N13 VDDCORE, N15 VDDCORE, N17 DDR_A11, N19 DDR_A14, N20 DDR_CKE, N21 DDR_A1, P2 PA8, P3 PF7, P4 PI1, P5 PI0, P7 VSS, P15 VSS, P17 DDR_DTO1, P18 DDR_ATO, P19 DDR_A8, P20 DDR_BA1, R1 PG1, R2 PG11, R3 PH3, R5 VDD, R7 VDD, R8 VSS, R9 VDD, R10 VDDCORE, R11 VSS, R12 VDD, R13 VDDCORE, R14 VSS, R15 VDDQ_DDR, R17 VDDQ_DDR, R19 DDR_A4, R20 DDR_ZQ, R21 DDR_A6, T1 VSS, T2 PE6, T3 PH0, T4 PA13, T5 VSS, T17 VSS, T18 DDR_VREF, T19 DDR_DQ10, T20 DDR_DQ8, T21 VSS, U2 PH1, U3 VSS_ANA, U5 VSS, U6 VSS, U7 VDD, U8 VDDA, U9 VSSA, U10 PA6, U11 VSS, U12 VDDCORE, U13 VSS, U14 VDDCORE, U15 VDDQ_DDR, U16 VSS, U17 PWR_ON, U19 DDR_DQ13, U20 DDR_DQ9, V1 PD7, V2 VDD_ANA, V3 PG2, V6 PA7, V8 VREF-, V11 NJTRST, V14 VDDA1V1_REG, V16 VSS, V19 PWR_LP, V20 DDR_DQS1P, V21 DDR_DQS1N, W1 PG3, W2 PG12, W3 PWR_CPU_ON, W4 PF13, W5 PC0, W6 PC3, W7 VREF+, W8 PB0, W9 PA3, W10 PE5, W11 VDD, W12 USB_RREF, W13 PA14, W14 VDD3V3_USBHS, W15 VDDA1V8_REG, W16 VSS, W17 BYPASS_REG1V8, W18 PH5, W19 DDR_DQ12, W20 DDR_DQ11, W21 DDR_DQM1, Y1 PA11, Y2 PF14, Y3 PA0, Y4 PA2, Y5 PA5, Y6 PF11, Y7 PC4, Y8 PB1, Y9 PC1, Y10 PG14, Y11 NRST, Y12 PF15, Y13 USB_DM2, Y14 VSS_USBHS, Y15 PI6, Y16 USB_DP1, Y17 PI4, Y18 VDD_PLL2, Y19 PH4, Y20 DDR_DQ15, Y21 DDR_DQ14

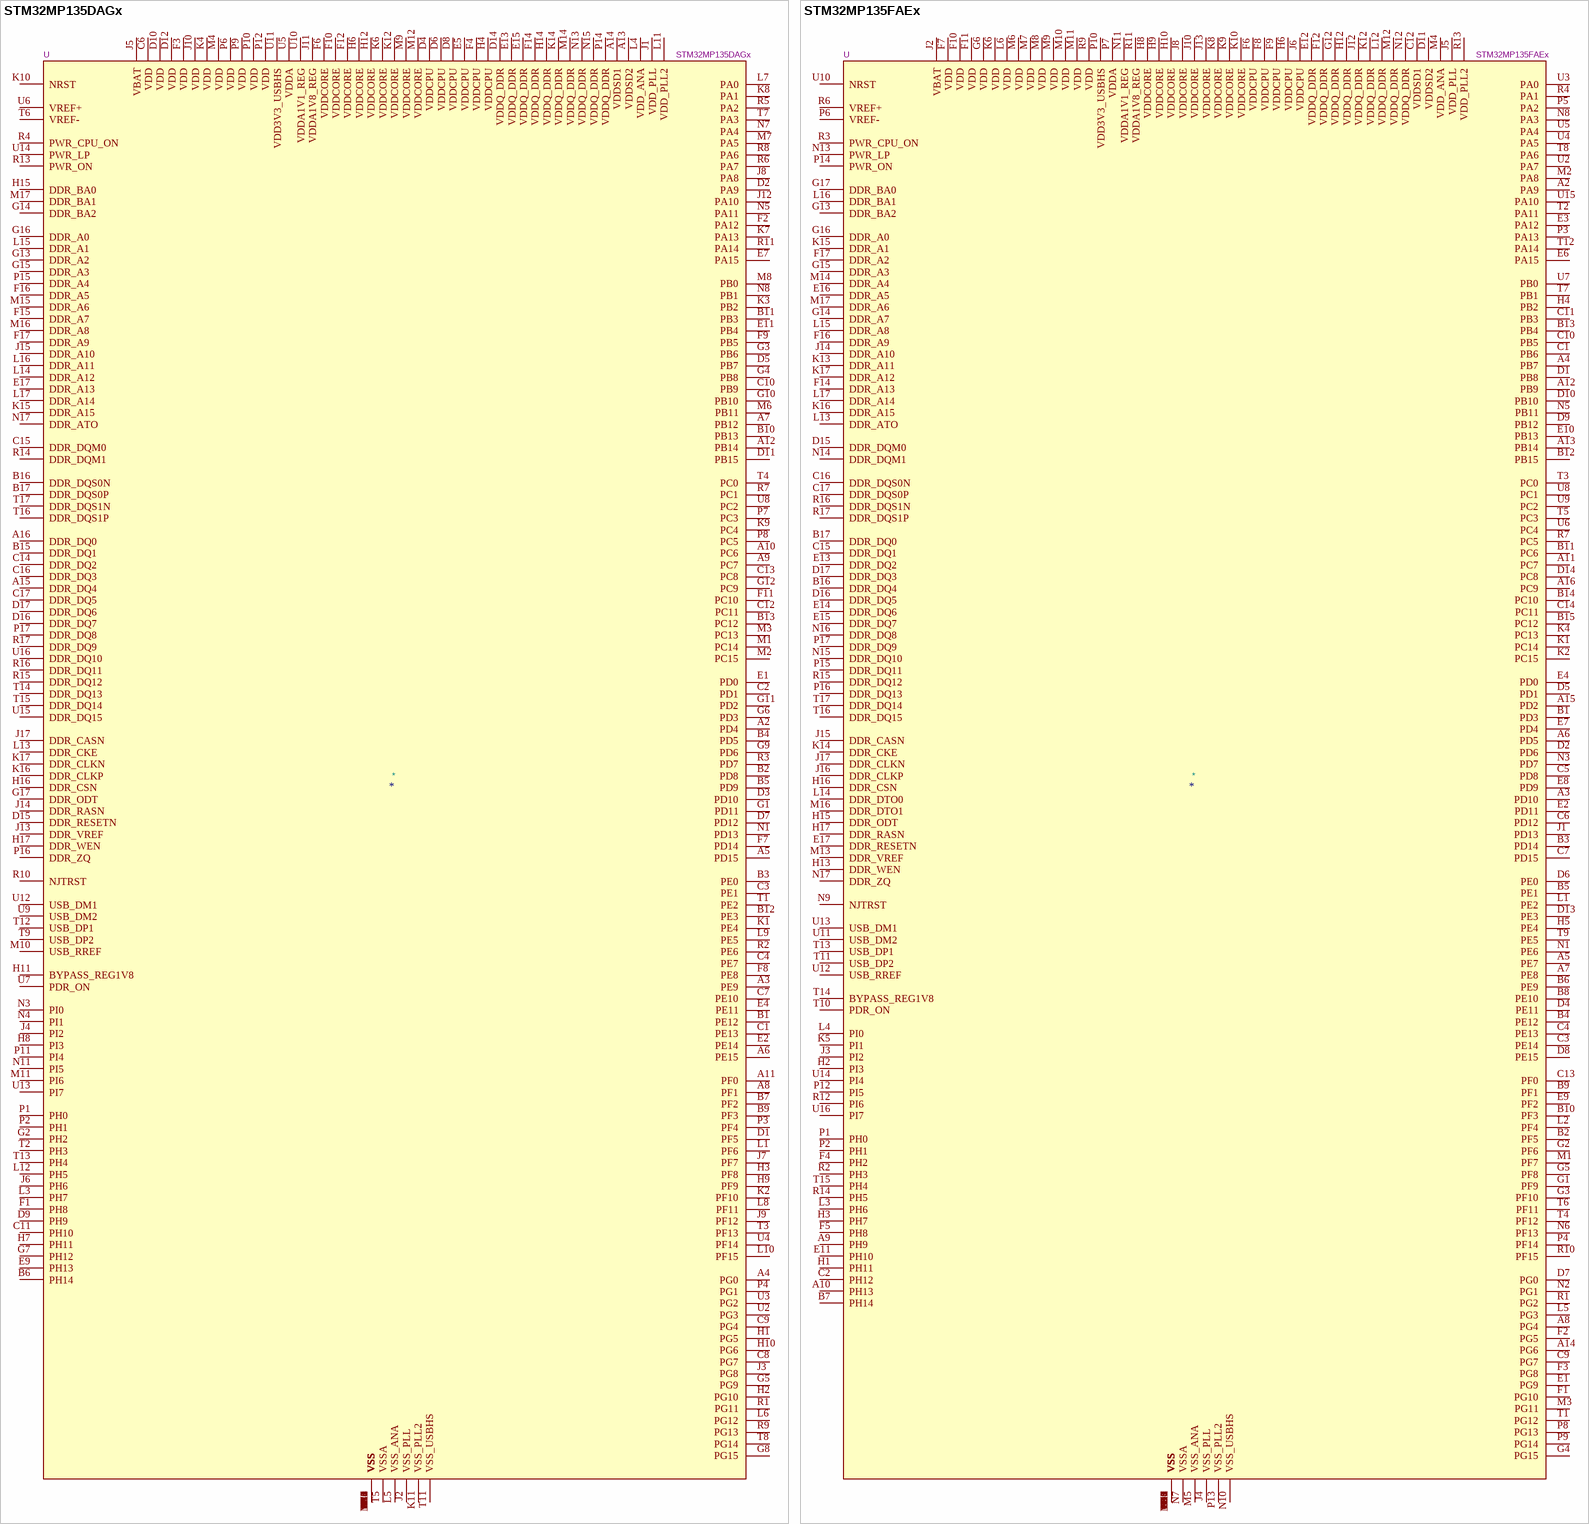
[diagram p22: symbols STM32MP135DAGx to STM32MP135FAEx]

## STM32MP135DAGx
designator *  value STM32MP135DAGx  Reference: U
STMicroelectronics Arm Cortex-A7 MCU, 0KB flash, 168KB RAM, 136 GPIO, TFBGA289; ki_keywords: Arm Cortex-A7 STM32MP1 STM32MP135; ki_fp_filters: TFBGA*9x9mm*Layout17x17*P0.5mm*; Footprint: Package_BGA:TFBGA-289_9x9mm_Layout17x17_P0.5mm; Datasheet: https://www.st.com/resource/en/datasheet/stm32mp135d.pdf; Description_: STMicroelectronics Arm Cortex-A7 MCU, 0KB flash, 168KB RAM, 136 GPIO, TFBGA289
pins: A1 VSS, A2 PD4, A3 PE9, A4 PG0, A5 PD15, A6 PE15, A7 PB12, A8 PF1, A9 PC7, A10 PC6, A11 PF0, A12 PB14, A13 VDDSD2, A14 VDDSD1, A15 DDR_DQ4, A16 DDR_DQ0, A17 VSS, B1 PE12, B2 PD8, B3 PE0, B4 PD5, B5 PD9, B6 PH14, B7 PF2, B8 VSS, B9 PF3, B10 PB13, B11 PB3, B12 PE3, B13 PC12, B14 VSS, B15 DDR_DQ1, B16 DDR_DQS0N, B17 DDR_DQS0P, C1 PE13, C2 PD1, C3 PE1, C4 PE7, C5 VSS, C6 VDD, C7 PE10, C8 PG7, C9 PG4, C10 PB9, C11 PH10, C12 PC11, C13 PC8, C14 DDR_DQ2, C15 DDR_DQM0, C16 DDR_DQ3, C17 DDR_DQ5, D1 PF5, D2 PA9, D3 PD10, D4 VDDCPU, D5 PB7, D6 VDDCPU, D7 PD12, D8 VDDCPU, D9 PH9, D10 VDD, D11 PB15, D12 VDD, D13 VSS, D14 VDDQ_DDR, D15 DDR_RESETN, D16 DDR_DQ7, D17 DDR_DQ6, E1 PD0, E2 PE14, E3 VSS, E4 PE11, E5 VDDCPU, E6 VSS, E7 PA15, E8 VSS, E9 PH13, E10 VSS, E11 PB4, E12 VSS, E13 VDDQ_DDR, E14 VSS, E15 VDDQ_DDR, E16 VSS, E17 DDR_A13, F1 PH8, F2 PA12, F3 VDD, F4 VDDCPU, F5 VSS, F6 VDDCORE, F7 PD14, F8 PE8, F9 PB5, F10 VDDCORE, F11 PC10, F12 VDDCORE, F13 VSS, F14 VDDQ_DDR, F15 DDR_A7, F16 DDR_A5, F17 DDR_A9, G1 PD11, G2 PH2, G3 PB6, G4 PB8, G5 PG9, G6 PD3, G7 PH12, G8 PG15, G9 PD6, G10 PB10, G11 PD2, G12 PC9, G13 DDR_A2, G14 DDR_BA2, G15 DDR_A3, G16 DDR_A0, G17 DDR_ODT, H1 PG5, H2 PG10, H3 PF8, H4 VDDCPU, H5 VSS, H6 VDDCORE, H7 PH11, H8 PI3, H9 PF9, H10 PG6, H11 BYPASS_REG1V8, H12 VDDCORE, H13 VSS, H14 VDDQ_DDR, H15 DDR_BA0, H16 DDR_CSN, H17 DDR_WEN, J1 VDD_PLL, J2 VSS_PLL, J3 PG8, J4 PI2, J5 VBAT, J6 PH6, J7 PF7, J8 PA8, J9 PF12, J10 VDD, J11 VDDA1V8_REG, J12 PA10, J13 DDR_VREF, J14 DDR_RASN, J15 DDR_A10, J16 VSS, J17 DDR_CASN, K1 PE4, K2 PF10, K3 PB2, K4 VDD, K5 VSS, K6 VDDCORE, K7 PA13, K8 PA1, K9 PC4, K10 NRST, K11 VSS_PLL2, K12 VDDCORE, K13 VSS, K14 VDDQ_DDR, K15 DDR_A15, K16 DDR_CLKP, K17 DDR_CLKN, L1 PF6, L2 VSS, L3 PH7, L4 VDD_ANA, L5 VSS_ANA, L6 PG12, L7 PA0, L8 PF11, L9 PE5, L10 PF15, L11 VDD_PLL2, L12 PH5, L13 DDR_CKE, L14 DDR_A12, L15 DDR_A1, L16 DDR_A11, L17 DDR_A14, M1 PC14, M2 PC15, M3 PC13, M4 VDD, M5 VSS, M6 PB11, M7 PA5, M8 PB0, M9 VDDCORE, M10 USB_RREF, M11 PI6, M12 VDDCORE, M13 VSS, M14 VDDQ_DDR, M15 DDR_A6, M16 DDR_A8, M17 DDR_BA1, N1 PD13, N2 VSS, N3 PI0, N4 PI1, N5 PA11, N6 VSS, N7 PA4, N8 PB1, N9 VSS, N10 VSS, N11 PI5, N12 VSS, N13 VDDQ_DDR, N14 VSS, N15 VDDQ_DDR, N16 VSS, N17 DDR_ATO, P1 PH0, P2 PH1, P3 PF4, P4 PG1, P5 VSS, P6 VDD, P7 PC3, P8 PC5, P9 VDD, P10 VDD, P11 PI4, P12 VDD, P13 VSS, P14 VDDQ_DDR, P15 DDR_A4, P16 DDR_ZQ, P17 DDR_DQ8, R1 PG11, R2 PE6, R3 PD7, R4 PWR_CPU_ON, R5 PA2, R6 PA7, R7 PC1, R8 PA6, R9 PG13, R10 NJTRST, R11 PA14, R12 VSS, R13 PWR_ON, R14 DDR_DQM1, R15 DDR_DQ12, R16 DDR_DQ11, R17 DDR_DQ9, T1 PE2, T2 PH3, T3 PF13, T4 PC0, T5 VSSA, T6 VREF-, T7 PA3, T8 PG14, T9 USB_DP2, T10 VSS, T11 VSS_USBHS, T12 USB_DP1, T13 PH4, T14 DDR_DQ13, T15 DDR_DQ14, T16 DDR_DQS1P, T17 DDR_DQS1N, U1 VSS, U2 PG3, U3 PG2, U4 PF14, U5 VDDA, U6 VREF+, U7 PDR_ON, U8 PC2, U9 USB_DM2, U10 VDDA1V1_REG, U11 VDD3V3_USBHS, U12 USB_DM1, U13 PI7, U14 PWR_LP, U15 DDR_DQ15, U16 DDR_DQ10, U17 VSS

## STM32MP135FAEx
designator *  value STM32MP135FAEx  Reference: U
STMicroelectronics Arm Cortex-A7 MCU, 0KB flash, 168KB RAM, 136 GPIO, LFBGA289; ki_keywords: Arm Cortex-A7 STM32MP1 STM32MP135; ki_fp_filters: LFBGA*14x14mm*Layout17x17*P0.8mm*; Footprint: Package_BGA:LFBGA-289_14x14mm_Layout17x17_P0.8mm; Datasheet: https://www.st.com/resource/en/datasheet/stm32mp135f.pdf; Description_: STMicroelectronics Arm Cortex-A7 MCU, 0KB flash, 168KB RAM, 136 GPIO, LFBGA289
pins: A1 VSS, A2 PA9, A3 PD10, A4 PB7, A5 PE7, A6 PD5, A7 PE8, A8 PG4, A9 PH9, A10 PH13, A11 PC7, A12 PB9, A13 PB14, A14 PG6, A15 PD2, A16 PC9, A17 VSS, B1 PD3, B2 PF5, B3 PD14, B4 PE12, B5 PE1, B6 PE9, B7 PH14, B8 PE10, B9 PF1, B10 PF3, B11 PC6, B12 PB15, B13 PB4, B14 PC10, B15 PC12, B16 DDR_DQ4, B17 DDR_DQ0, C1 PB6, C2 PH12, C3 PE14, C4 PE13, C5 PD8, C6 PD12, C7 PD15, C8 VSS, C9 PG7, C10 PB5, C11 PB3, C12 VDDSD1, C13 PF0, C14 PC11, C15 DDR_DQ1, C16 DDR_DQS0N, C17 DDR_DQS0P, D1 PB8, D2 PD6, D3 VSS, D4 PE11, D5 PD1, D6 PE0, D7 PG0, D8 PE15, D9 PB12, D10 PB10, D11 VDDSD2, D12 VSS, D13 PE3, D14 PC8, D15 DDR_DQM0, D16 DDR_DQ5, D17 DDR_DQ3, E1 PG9, E2 PD11, E3 PA12, E4 PD0, E5 VSS, E6 PA15, E7 PD4, E8 PD9, E9 PF2, E10 PB13, E11 PH10, E12 VDDQ_DDR, E13 DDR_DQ2, E14 DDR_DQ6, E15 DDR_DQ7, E16 DDR_A5, E17 DDR_RESETN, F1 PG10, F2 PG5, F3 PG8, F4 PH2, F5 PH8, F6 VDDCPU, F7 VDD, F8 VDDCPU, F9 VDDCPU, F10 VDD, F11 VDD, F12 VDDQ_DDR, F13 VSS, F14 DDR_A13, F15 VSS, F16 DDR_A9, F17 DDR_A2, G1 PF9, G2 PF6, G3 PF10, G4 PG15, G5 PF8, G6 VDD, G7 VSS, G8 VSS, G9 VSS, G10 VSS, G11 VSS, G12 VDDQ_DDR, G13 DDR_BA2, G14 DDR_A7, G15 DDR_A3, G16 DDR_A0, G17 DDR_BA0, H1 PH11, H2 PI3, H3 PH7, H4 PB2, H5 PE4, H6 VDDCPU, H7 VSS, H8 VDDCORE, H9 VDDCORE, H10 VDDCORE, H11 VSS, H12 VDDQ_DDR, H13 DDR_WEN, H14 VSS, H15 DDR_ODT, H16 DDR_CSN, H17 DDR_RASN, J1 PD13, J2 VBAT, J3 PI2, J4 VSS_PLL, J5 VDD_PLL, J6 VDDCPU, J7 VSS, J8 VDDCORE, J9 VSS, J10 VDDCORE, J11 VSS, J12 VDDQ_DDR, J13 VDDCORE, J14 DDR_A10, J15 DDR_CASN, J16 DDR_CLKP, J17 DDR_CLKN, K1 PC14, K2 PC15, K3 VSS, K4 PC13, K5 PI1, K6 VDD, K7 VSS, K8 VDDCORE, K9 VDDCORE, K10 VDDCORE, K11 VSS, K12 VDDQ_DDR, K13 DDR_A11, K14 DDR_CKE, K15 DDR_A1, K16 DDR_A15, K17 DDR_A12, L1 PE2, L2 PF4, L3 PH6, L4 PI0, L5 PG3, L6 VDD, L7 VSS, L8 VSS, L9 VSS, L10 VSS, L11 VSS, L12 VDDQ_DDR, L13 DDR_ATO, L14 DDR_DTO0, L15 DDR_A8, L16 DDR_BA1, L17 DDR_A14, M1 PF7, M2 PA8, M3 PG11, M4 VDD_ANA, M5 VSS_ANA, M6 VDD, M7 VDD, M8 VDD, M9 VDD, M10 VDD, M11 VDD, M12 VDDQ_DDR, M13 DDR_VREF, M14 DDR_A4, M15 VSS, M16 DDR_DTO1, M17 DDR_A6, N1 PE6, N2 PG1, N3 PD7, N4 VSS, N5 PB11, N6 PF13, N7 VSSA, N8 PA3, N9 NJTRST, N10 VSS_USBHS, N11 VDDA1V1_REG, N12 VDDQ_DDR, N13 PWR_LP, N14 DDR_DQM1, N15 DDR_DQ10, N16 DDR_DQ8, N17 DDR_ZQ, P1 PH0, P2 PH1, P3 PA13, P4 PF14, P5 PA2, P6 VREF-, P7 VDDA, P8 PG13, P9 PG14, P10 VDD3V3_USBHS, P11 VSS, P12 PI5, P13 VSS_PLL2, P14 PWR_ON, P15 DDR_DQ11, P16 DDR_DQ13, P17 DDR_DQ9, R1 PG2, R2 PH3, R3 PWR_CPU_ON, R4 PA1, R5 VSS, R6 VREF+, R7 PC5, R8 VSS, R9 VDD, R10 PF15, R11 VDDA1V8_REG, R12 PI6, R13 VDD_PLL2, R14 PH5, R15 DDR_DQ12, R16 DDR_DQS1N, R17 DDR_DQS1P, T1 PG12, T2 PA11, T3 PC0, T4 PF12, T5 PC3, T6 PF11, T7 PB1, T8 PA6, T9 PE5, T10 PDR_ON, T11 USB_DP2, T12 PA14, T13 USB_DP1, T14 BYPASS_REG1V8, T15 PH4, T16 DDR_DQ15, T17 DDR_DQ14, U1 VSS, U2 PA7, U3 PA0, U4 PA5, U5 PA4, U6 PC4, U7 PB0, U8 PC1, U9 PC2, U10 NRST, U11 USB_DM2, U12 USB_RREF, U13 USB_DM1, U14 PI4, U15 PA10, U16 PI7, U17 VSS

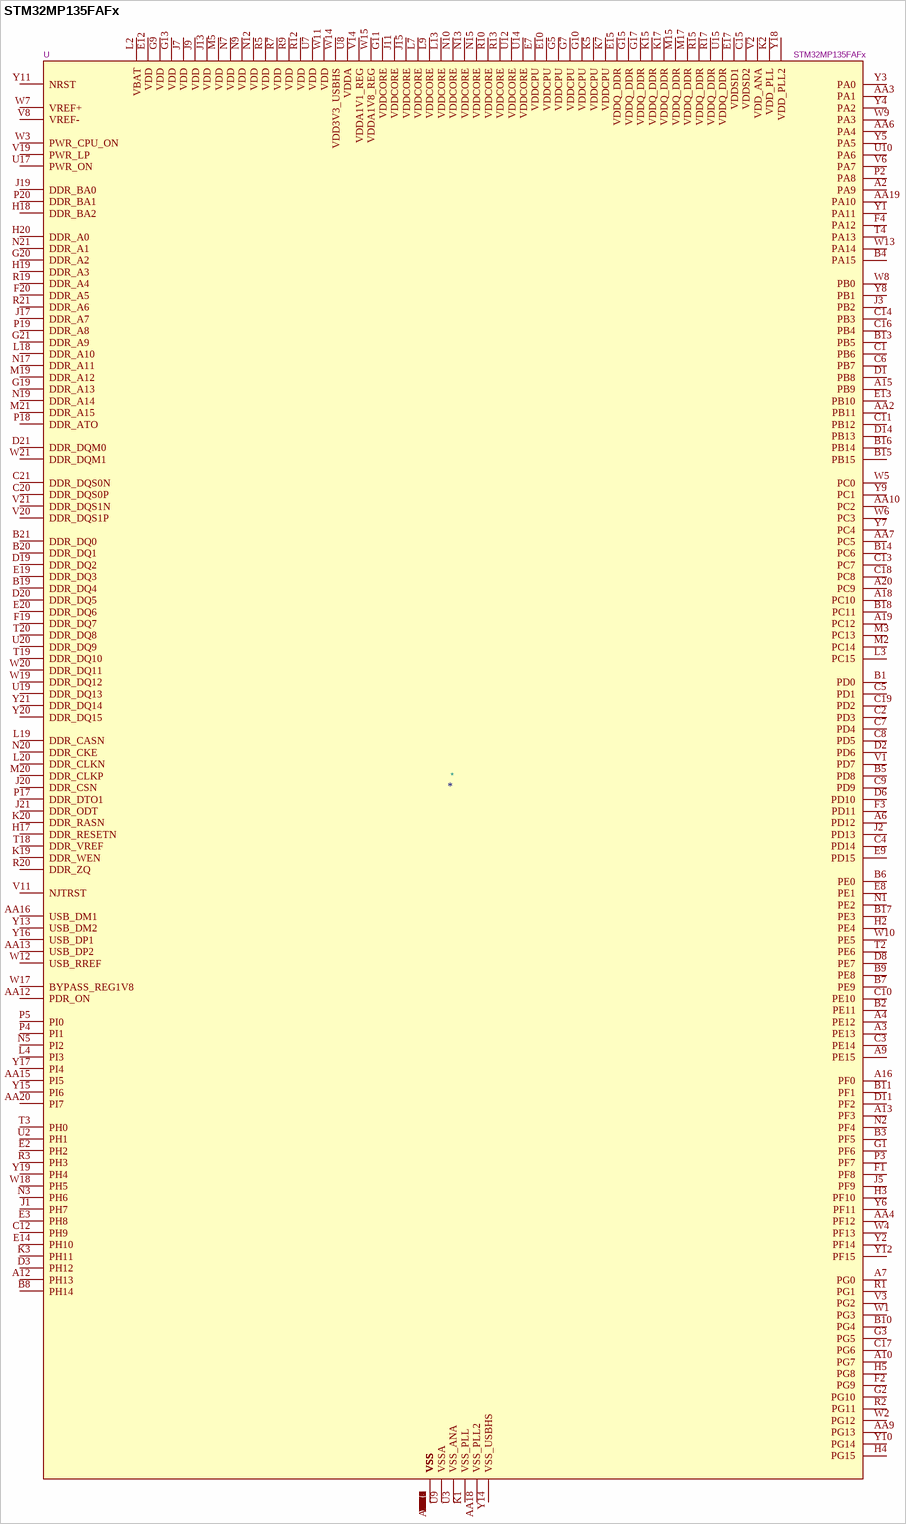
[diagram p23: symbol STM32MP135FAFx]

## STM32MP135FAFx
designator *  value STM32MP135FAFx  Reference: U
STMicroelectronics Arm Cortex-A7 MCU, 0KB flash, 168KB RAM, 136 GPIO, TFBGA320; ki_keywords: Arm Cortex-A7 STM32MP1 STM32MP135; ki_fp_filters: ST*TFBGA*11x11mm*Layout21x21*P0.5mm*; Footprint: Package_BGA:ST_TFBGA-320_11x11mm_Layout21x21_P0.5mm; Datasheet: https://www.st.com/resource/en/datasheet/stm32mp135f.pdf; Description_: STMicroelectronics Arm Cortex-A7 MCU, 0KB flash, 168KB RAM, 136 GPIO, TFBGA320
pins: A1 VSS, A2 PA9, A3 PE13, A4 PE12, A6 PD12, A7 PG0, A9 PE15, A10 PG7, A12 PH13, A13 PF3, A15 PB9, A16 PF0, A18 PC10, A19 PC12, A20 PC9, A21 VSS, AA1 VSS, AA2 PB11, AA3 PA1, AA4 PF12, AA6 PA4, AA7 PC5, AA9 PG13, AA10 PC2, AA12 PDR_ON, AA13 USB_DP2, AA15 PI5, AA16 USB_DM1, AA18 VSS_PLL2, AA19 PA10, AA20 PI7, AA21 VSS, B1 PD0, B2 PE11, B3 PF5, B4 PA15, B5 PD8, B6 PE0, B7 PE9, B8 PH14, B9 PE8, B10 PG4, B11 PF1, B12 VSS, B13 PB5, B14 PC6, B15 PB15, B16 PB14, B17 PE3, B18 PC11, B19 DDR_DQ4, B20 DDR_DQ1, B21 DDR_DQ0, C1 PB6, C2 PD3, C3 PE14, C4 PD14, C5 PD1, C6 PB7, C7 PD4, C8 PD5, C9 PD9, C10 PE10, C11 PB12, C12 PH9, C13 PC7, C14 PB3, C15 VDDSD2, C16 PB4, C17 PG6, C18 PC8, C19 PD2, C20 DDR_DQS0P, C21 DDR_DQS0N, D1 PB8, D2 PD6, D3 PH12, D6 PD10, D8 PE7, D11 PF2, D14 PB13, D16 VSS, D19 DDR_DQ2, D20 DDR_DQ5, D21 DDR_DQM0, E2 PH2, E3 PH8, E5 VSS, E6 VSS, E7 VDDCPU, E8 PE1, E9 PD15, E10 VDDCPU, E11 VSS, E12 VDD, E13 PB10, E14 PH10, E15 VDDQ_DDR, E16 VSS, E17 VDDSD1, E19 DDR_DQ3, E20 DDR_DQ6, F1 PF8, F2 PG9, F3 PD11, F4 PA12, F5 VSS, F17 VSS, F18 VSS, F19 DDR_DQ7, F20 DDR_A5, F21 VSS, G1 PF6, G2 PG10, G3 PG5, G5 VDDCPU, G7 VDDCPU, G8 VSS, G9 VDD, G10 VDDCPU, G11 VDDCORE, G12 VSS, G13 VDD, G14 VSS, G15 VDDQ_DDR, G17 VDDQ_DDR, G19 DDR_A13, G20 DDR_A2, G21 DDR_A9, H2 PE4, H3 PF10, H4 PG15, H5 PG8, H7 VSS, H15 VSS, H17 DDR_RESETN, H18 DDR_BA2, H19 DDR_A3, H20 DDR_A0, J1 PH7, J2 PD13, J3 PB2, J5 PF9, J7 VDD, J9 VDD, J10 VSS, J11 VDDCORE, J12 VSS, J13 VDD, J15 VDDCORE, J17 DDR_A7, J19 DDR_BA0, J20 DDR_CSN, J21 DDR_ODT, K1 VSS_PLL, K2 VDD_PLL, K3 PH11, K5 VDDCPU, K7 VDDCPU, K9 VSS, K10 VSS, K11 VSS, K12 VSS, K13 VSS, K15 VDDQ_DDR, K17 VDDQ_DDR, K19 DDR_WEN, K20 DDR_RASN, K21 VSS, L2 VBAT, L3 PC15, L4 PI3, L5 VSS, L7 VDDCORE, L9 VDDCORE, L10 VSS, L12 VSS, L13 VDDCORE, L15 VSS, L17 VSS, L18 DDR_A10, L19 DDR_CASN, L20 DDR_CLKN, M1 VSS, M2 PC14, M3 PC13, M5 VDD, M7 VSS, M9 VSS, M10 VSS, M11 VSS, M12 VSS, M13 VSS, M15 VDDQ_DDR, M17 VDDQ_DDR, M19 DDR_A12, M20 DDR_CLKP, M21 DDR_A15, N1 PE2, N2 PF4, N3 PH6, N5 PI2, N7 VDD, N9 VDD, N10 VDDCORE, N11 VSS, N12 VDD, N13 VDDCORE, N15 VDDCORE, N17 DDR_A11, N19 DDR_A14, N20 DDR_CKE, N21 DDR_A1, P2 PA8, P3 PF7, P4 PI1, P5 PI0, P7 VSS, P15 VSS, P17 DDR_DTO1, P18 DDR_ATO, P19 DDR_A8, P20 DDR_BA1, R1 PG1, R2 PG11, R3 PH3, R5 VDD, R7 VDD, R8 VSS, R9 VDD, R10 VDDCORE, R11 VSS, R12 VDD, R13 VDDCORE, R14 VSS, R15 VDDQ_DDR, R17 VDDQ_DDR, R19 DDR_A4, R20 DDR_ZQ, R21 DDR_A6, T1 VSS, T2 PE6, T3 PH0, T4 PA13, T5 VSS, T17 VSS, T18 DDR_VREF, T19 DDR_DQ10, T20 DDR_DQ8, T21 VSS, U2 PH1, U3 VSS_ANA, U5 VSS, U6 VSS, U7 VDD, U8 VDDA, U9 VSSA, U10 PA6, U11 VSS, U12 VDDCORE, U13 VSS, U14 VDDCORE, U15 VDDQ_DDR, U16 VSS, U17 PWR_ON, U19 DDR_DQ13, U20 DDR_DQ9, V1 PD7, V2 VDD_ANA, V3 PG2, V6 PA7, V8 VREF-, V11 NJTRST, V14 VDDA1V1_REG, V16 VSS, V19 PWR_LP, V20 DDR_DQS1P, V21 DDR_DQS1N, W1 PG3, W2 PG12, W3 PWR_CPU_ON, W4 PF13, W5 PC0, W6 PC3, W7 VREF+, W8 PB0, W9 PA3, W10 PE5, W11 VDD, W12 USB_RREF, W13 PA14, W14 VDD3V3_USBHS, W15 VDDA1V8_REG, W16 VSS, W17 BYPASS_REG1V8, W18 PH5, W19 DDR_DQ12, W20 DDR_DQ11, W21 DDR_DQM1, Y1 PA11, Y2 PF14, Y3 PA0, Y4 PA2, Y5 PA5, Y6 PF11, Y7 PC4, Y8 PB1, Y9 PC1, Y10 PG14, Y11 NRST, Y12 PF15, Y13 USB_DM2, Y14 VSS_USBHS, Y15 PI6, Y16 USB_DP1, Y17 PI4, Y18 VDD_PLL2, Y19 PH4, Y20 DDR_DQ15, Y21 DDR_DQ14

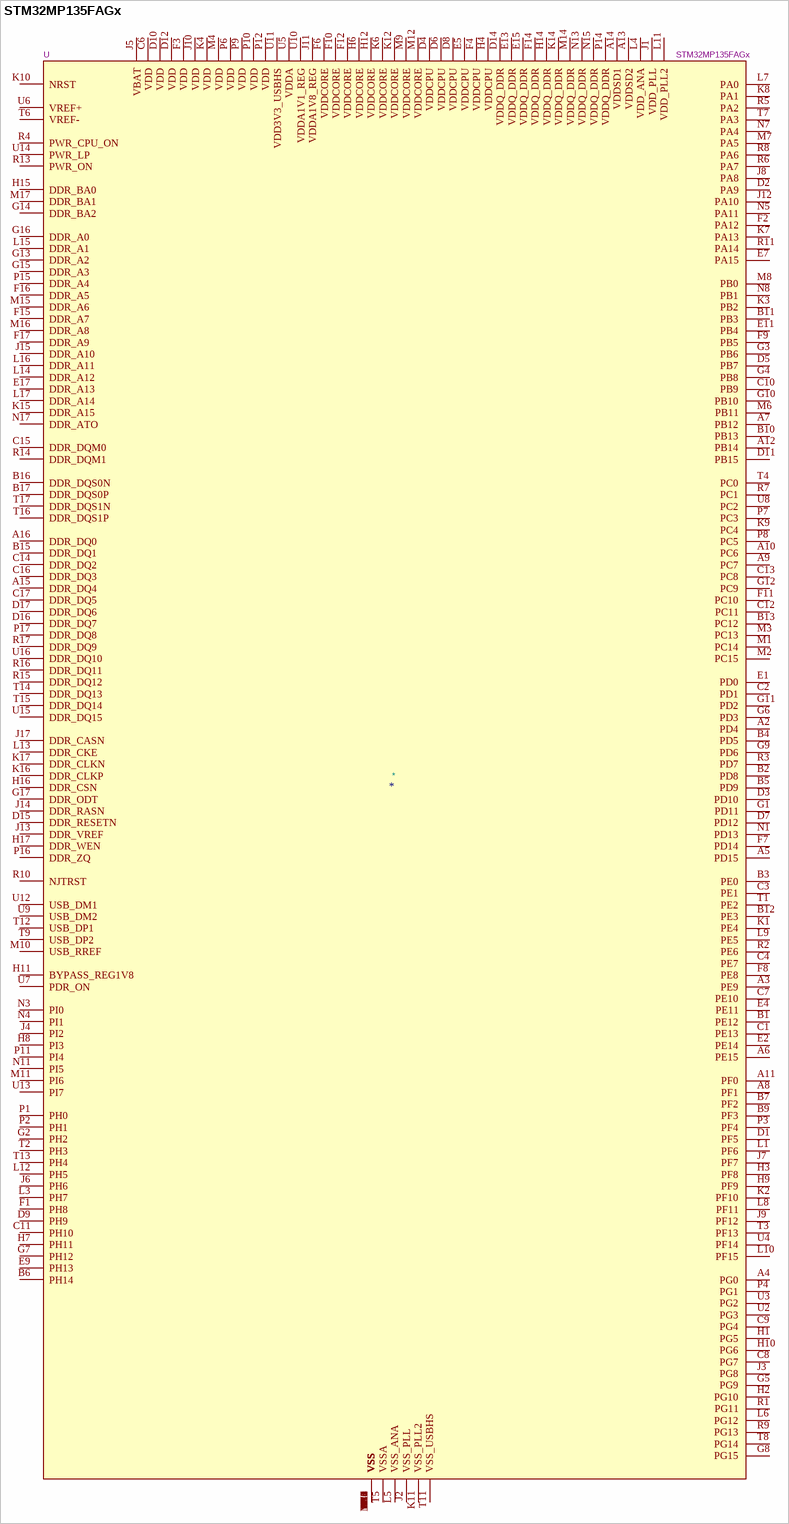
[diagram p24: symbol STM32MP135FAGx]

## STM32MP135FAGx
designator *  value STM32MP135FAGx  Reference: U
STMicroelectronics Arm Cortex-A7 MCU, 0KB flash, 168KB RAM, 136 GPIO, TFBGA289; ki_keywords: Arm Cortex-A7 STM32MP1 STM32MP135; ki_fp_filters: TFBGA*9x9mm*Layout17x17*P0.5mm*; Footprint: Package_BGA:TFBGA-289_9x9mm_Layout17x17_P0.5mm; Datasheet: https://www.st.com/resource/en/datasheet/stm32mp135f.pdf; Description_: STMicroelectronics Arm Cortex-A7 MCU, 0KB flash, 168KB RAM, 136 GPIO, TFBGA289
pins: A1 VSS, A2 PD4, A3 PE9, A4 PG0, A5 PD15, A6 PE15, A7 PB12, A8 PF1, A9 PC7, A10 PC6, A11 PF0, A12 PB14, A13 VDDSD2, A14 VDDSD1, A15 DDR_DQ4, A16 DDR_DQ0, A17 VSS, B1 PE12, B2 PD8, B3 PE0, B4 PD5, B5 PD9, B6 PH14, B7 PF2, B8 VSS, B9 PF3, B10 PB13, B11 PB3, B12 PE3, B13 PC12, B14 VSS, B15 DDR_DQ1, B16 DDR_DQS0N, B17 DDR_DQS0P, C1 PE13, C2 PD1, C3 PE1, C4 PE7, C5 VSS, C6 VDD, C7 PE10, C8 PG7, C9 PG4, C10 PB9, C11 PH10, C12 PC11, C13 PC8, C14 DDR_DQ2, C15 DDR_DQM0, C16 DDR_DQ3, C17 DDR_DQ5, D1 PF5, D2 PA9, D3 PD10, D4 VDDCPU, D5 PB7, D6 VDDCPU, D7 PD12, D8 VDDCPU, D9 PH9, D10 VDD, D11 PB15, D12 VDD, D13 VSS, D14 VDDQ_DDR, D15 DDR_RESETN, D16 DDR_DQ7, D17 DDR_DQ6, E1 PD0, E2 PE14, E3 VSS, E4 PE11, E5 VDDCPU, E6 VSS, E7 PA15, E8 VSS, E9 PH13, E10 VSS, E11 PB4, E12 VSS, E13 VDDQ_DDR, E14 VSS, E15 VDDQ_DDR, E16 VSS, E17 DDR_A13, F1 PH8, F2 PA12, F3 VDD, F4 VDDCPU, F5 VSS, F6 VDDCORE, F7 PD14, F8 PE8, F9 PB5, F10 VDDCORE, F11 PC10, F12 VDDCORE, F13 VSS, F14 VDDQ_DDR, F15 DDR_A7, F16 DDR_A5, F17 DDR_A9, G1 PD11, G2 PH2, G3 PB6, G4 PB8, G5 PG9, G6 PD3, G7 PH12, G8 PG15, G9 PD6, G10 PB10, G11 PD2, G12 PC9, G13 DDR_A2, G14 DDR_BA2, G15 DDR_A3, G16 DDR_A0, G17 DDR_ODT, H1 PG5, H2 PG10, H3 PF8, H4 VDDCPU, H5 VSS, H6 VDDCORE, H7 PH11, H8 PI3, H9 PF9, H10 PG6, H11 BYPASS_REG1V8, H12 VDDCORE, H13 VSS, H14 VDDQ_DDR, H15 DDR_BA0, H16 DDR_CSN, H17 DDR_WEN, J1 VDD_PLL, J2 VSS_PLL, J3 PG8, J4 PI2, J5 VBAT, J6 PH6, J7 PF7, J8 PA8, J9 PF12, J10 VDD, J11 VDDA1V8_REG, J12 PA10, J13 DDR_VREF, J14 DDR_RASN, J15 DDR_A10, J16 VSS, J17 DDR_CASN, K1 PE4, K2 PF10, K3 PB2, K4 VDD, K5 VSS, K6 VDDCORE, K7 PA13, K8 PA1, K9 PC4, K10 NRST, K11 VSS_PLL2, K12 VDDCORE, K13 VSS, K14 VDDQ_DDR, K15 DDR_A15, K16 DDR_CLKP, K17 DDR_CLKN, L1 PF6, L2 VSS, L3 PH7, L4 VDD_ANA, L5 VSS_ANA, L6 PG12, L7 PA0, L8 PF11, L9 PE5, L10 PF15, L11 VDD_PLL2, L12 PH5, L13 DDR_CKE, L14 DDR_A12, L15 DDR_A1, L16 DDR_A11, L17 DDR_A14, M1 PC14, M2 PC15, M3 PC13, M4 VDD, M5 VSS, M6 PB11, M7 PA5, M8 PB0, M9 VDDCORE, M10 USB_RREF, M11 PI6, M12 VDDCORE, M13 VSS, M14 VDDQ_DDR, M15 DDR_A6, M16 DDR_A8, M17 DDR_BA1, N1 PD13, N2 VSS, N3 PI0, N4 PI1, N5 PA11, N6 VSS, N7 PA4, N8 PB1, N9 VSS, N10 VSS, N11 PI5, N12 VSS, N13 VDDQ_DDR, N14 VSS, N15 VDDQ_DDR, N16 VSS, N17 DDR_ATO, P1 PH0, P2 PH1, P3 PF4, P4 PG1, P5 VSS, P6 VDD, P7 PC3, P8 PC5, P9 VDD, P10 VDD, P11 PI4, P12 VDD, P13 VSS, P14 VDDQ_DDR, P15 DDR_A4, P16 DDR_ZQ, P17 DDR_DQ8, R1 PG11, R2 PE6, R3 PD7, R4 PWR_CPU_ON, R5 PA2, R6 PA7, R7 PC1, R8 PA6, R9 PG13, R10 NJTRST, R11 PA14, R12 VSS, R13 PWR_ON, R14 DDR_DQM1, R15 DDR_DQ12, R16 DDR_DQ11, R17 DDR_DQ9, T1 PE2, T2 PH3, T3 PF13, T4 PC0, T5 VSSA, T6 VREF-, T7 PA3, T8 PG14, T9 USB_DP2, T10 VSS, T11 VSS_USBHS, T12 USB_DP1, T13 PH4, T14 DDR_DQ13, T15 DDR_DQ14, T16 DDR_DQS1P, T17 DDR_DQS1N, U1 VSS, U2 PG3, U3 PG2, U4 PF14, U5 VDDA, U6 VREF+, U7 PDR_ON, U8 PC2, U9 USB_DM2, U10 VDDA1V1_REG, U11 VDD3V3_USBHS, U12 USB_DM1, U13 PI7, U14 PWR_LP, U15 DDR_DQ15, U16 DDR_DQ10, U17 VSS

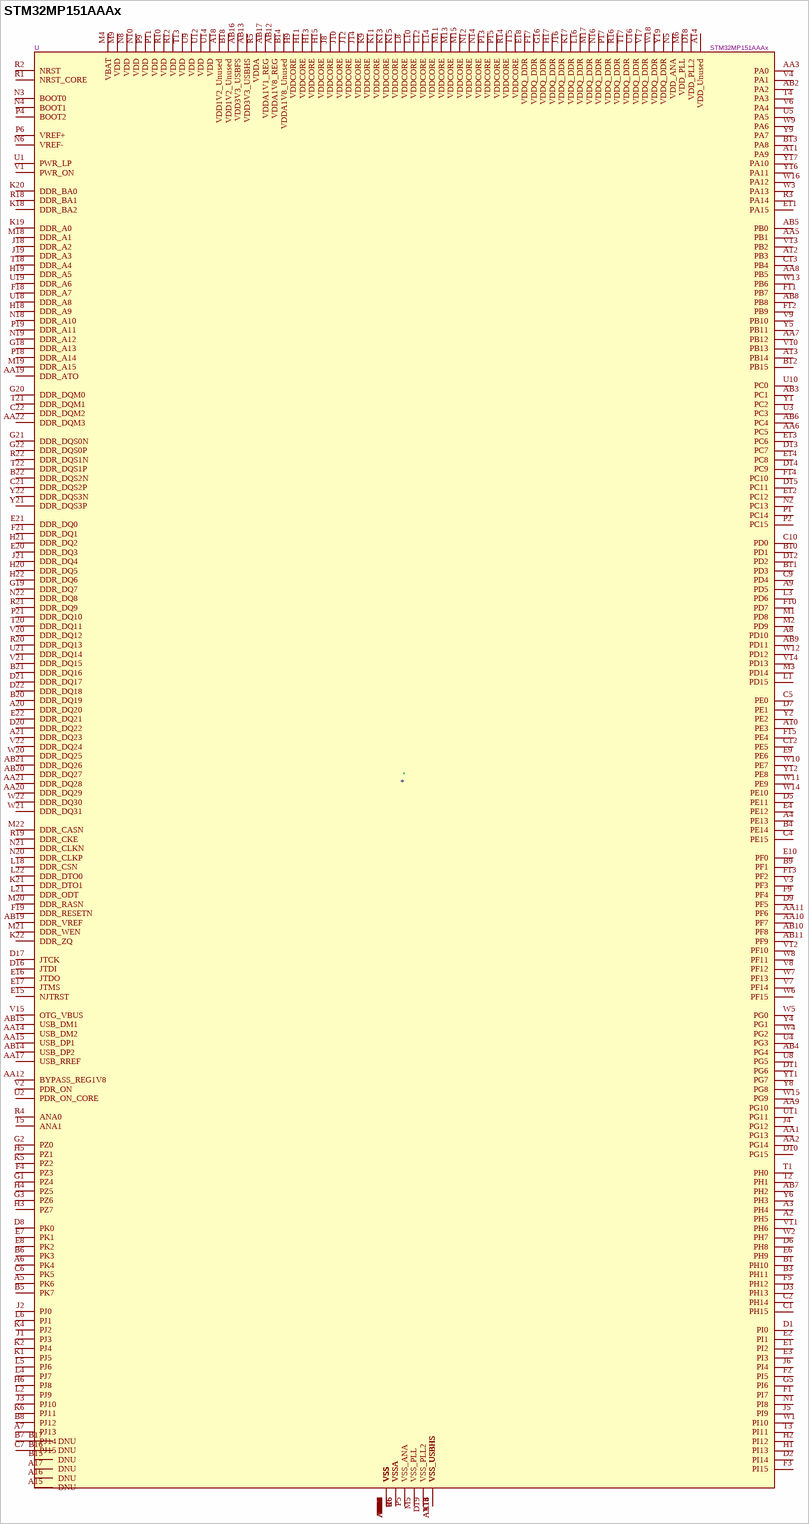
[diagram p25: symbol STM32MP151AAAx]

## STM32MP151AAAx
designator *  value STM32MP151AAAx  Reference: U
STMicroelectronics Arm Cortex-A7 MCU, 0KB flash, 708KB RAM, 176 GPIO, LFBGA448; ki_keywords: Arm Cortex-A7 STM32MP1 STM32MP151; ki_fp_filters: ST*LFBGA*18x18mm*Layout22x22*P0.8mm*; Footprint: Package_BGA:ST_LFBGA-448_18x18mm_Layout22x22_P0.8mm; Datasheet: https://www.st.com/resource/en/datasheet/stm32mp151a.pdf; Description_: STMicroelectronics Arm Cortex-A7 MCU, 0KB flash, 708KB RAM, 176 GPIO, LFBGA448
pins: A1 VSS, A2 PH5, A3 PH4, A4 PE13, A5 PK6, A6 PK4, A7 PJ13, A8 PD10, A9 PD5, A10 PE3, A11 PA9, A12 PB3, A13 PB14, A14 VDD_Unused, A15 DNU, A16 DNU, A17 DNU, A18 VDD1V2_Unused, A19 VSS, A20 DDR_DQ20, A21 DDR_DQ23, A22 VSS, AA1 PG13, AA2 PG14, AA3 PA0, AA4 VSS, AA5 PB1, AA6 PC5, AA7 PB12, AA8 PB5, AA9 PG10, AA10 PF7, AA11 PF6, AA12 BYPASS_REG1V8, AA13 VSS_USBHS, AA14 USB_DM2, AA15 USB_DP1, AA16 VSS_USBHS, AA17 USB_RREF, AA18 VSS, AA19 DDR_ATO, AA20 DDR_DQ29, AA21 DDR_DQ28, AA22 DDR_DQM3, AB1 VSS, AB2 PA2, AB3 PC1, AB4 PG4, AB5 PB0, AB6 PC4, AB7 PH2, AB8 PB8, AB9 PD11, AB10 PF8, AB11 PF9, AB12 VDDA1V8_REG, AB13 VDD3V3_USBHS, AB14 USB_DP2, AB15 USB_DM1, AB16 VDD3V3_USBFS, AB17 VDDA1V1_REG, AB18 VSS, AB19 DDR_VREF, AB20 DDR_DQ27, AB21 DDR_DQ26, AB22 VSS, B1 PH10, B2 VSS, B3 PH11, B4 PE14, B5 PK7, B6 PK3, B7 PJ14, B8 PJ12, B9 PF1, B10 PD1, B11 PD3, B12 PB15, B13 PA8, B14 VDDA1V8_Unused, B15 DNU, B16 DNU, B17 DNU, B18 VDD1V2_Unused, B19 VSS, B20 DDR_DQ19, B21 DDR_DQ16, B22 DDR_DQS2N, C1 PH15, C2 PH14, C3 VSS, C4 PE15, C5 PE0, C6 PK5, C7 PJ15, C8 VSS, C9 PD4, C10 PD0, C11 VSS, C12 PE5, C13 PB4, C14 VSS, C15 VSS, C16 VSS, C17 VSS, C18 VSS, C19 VSS, C20 VSS, C21 DDR_DQS2P, C22 DDR_DQM2, D1 PI0, D2 PI14, D3 PH13, D4 VSS, D5 PE11, D6 PH8, D7 PE1, D8 PK0, D9 PF5, D10 PG15, D11 PG6, D12 PD2, D13 PC7, D14 PC9, D15 PC11, D16 JTDI, D17 JTCK, D18 VDD_PLL2, D19 VSS_PLL2, D20 DDR_DQ22, D21 DDR_DQ17, D22 DDR_DQ18, E1 PI2, E2 PI1, E3 PI3, E4 PE12, E5 VSS, E6 PH9, E7 PK1, E8 PK2, E9 PE6, E10 PF0, E11 PA15, E12 PC12, E13 PC6, E14 PC8, E15 NJTRST, E16 JTDO, E17 JTMS, E18 VDDQ_DDR, E19 VSS, E20 DDR_DQ3, E21 DDR_DQ0, E22 DDR_DQ21, F1 PI7, F2 PI5, F3 PI15, F4 PZ3, F5 PH12, F6 VSS, F7 VSS, F8 VSS, F9 PF4, F10 PD7, F11 PB7, F12 PB9, F13 PF2, F14 PC10, F15 PE4, F16 VSS, F17 VDDQ_DDR, F18 DDR_A7, F19 DDR_RESETN, F20 VSS, F21 DDR_DQ1, G1 PZ4, G2 PZ0, G3 PZ6, G4 VSS, G5 PI6, G6 VSS, G8 VSS, G10 VSS, G12 VSS, G14 VSS, G16 VDDQ_DDR, G17 VSS, G18 DDR_A13, G19 DDR_DQ7, G20 DDR_DQM0, G21 DDR_DQS0N, G22 DDR_DQS0P, H1 PI13, H2 PI12, H3 PZ7, H4 PZ5, H5 PZ1, H6 PJ8, H7 VSS, H9 VDDCORE, H11 VDDCORE, H13 VDDCORE, H15 VDDCORE, H17 VDDQ_DDR, H18 DDR_A9, H19 DDR_A5, H20 DDR_DQ5, H21 DDR_DQ2, H22 DDR_DQ6, J1 PJ3, J2 PJ0, J3 PJ10, J4 PG12, J5 PI9, J6 PI4, J8 VDDCORE, J9 VSS, J10 VDDCORE, J11 VSS, J12 VDDCORE, J13 VSS, J14 VDDCORE, J16 VDDQ_DDR, J17 VSS, J18 DDR_A2, J19 DDR_A3, J20 VSS, J21 DDR_DQ4, K1 PJ5, K2 PJ4, K3 VSS, K4 PJ2, K5 PZ2, K6 PJ11, K7 VSS, K9 VDDCORE, K10 VSS, K11 VDDCORE, K12 VSS, K13 VDDCORE, K14 VSS, K15 VDDCORE, K17 VDDQ_DDR, K18 DDR_BA2, K19 DDR_A0, K20 DDR_BA0, K21 DDR_DTO1, K22 DDR_ZQ, L1 PD15, L2 PJ9, L3 PD6, L4 PJ7, L5 PJ6, L6 PJ1, L8 VDDCORE, L9 VSS, L10 VDDCORE, L11 VSS, L12 VDDCORE, L13 VSS, L14 VDDCORE, L16 VDDQ_DDR, L17 VSS, L18 DDR_CSN, L19 VSS, L20 VSS, L21 DDR_ODT, L22 DDR_DTO0, M1 PD8, M2 PD9, M3 PD14, M4 VBAT, M5 VSS_PLL, M6 VDD_PLL, M7 VSS, M9 VDD, M10 VSS, M11 VDDCORE, M12 VSS, M13 VDDCORE, M14 VSS, M15 VDDCORE, M17 VDDQ_DDR, M18 DDR_A1, M19 DDR_A15, M20 DDR_RASN, M21 DDR_WEN, M22 DDR_CASN, N1 PI8, N2 PC13, N3 BOOT0, N4 BOOT1, N5 VDD_ANA, N6 VREF-, N8 VDD, N9 VSS, N10 VDD, N11 VSS, N12 VDDCORE, N13 VSS, N14 VDDCORE, N16 VDDQ_DDR, N17 VSS, N18 DDR_A10, N19 DDR_A12, N20 DDR_CLKP, N21 DDR_CLKN, N22 DDR_DQ8, P1 PC14, P2 PC15, P3 VSS, P4 BOOT2, P5 VSS_ANA, P6 VREF+, P7 VSS, P9 VDD, P10 VSS, P11 VDD, P12 VSS, P13 VDDCORE, P14 VSS, P15 VDDCORE, P17 VDDQ_DDR, P18 DDR_A14, P19 DDR_A11, P20 VSS, P21 DDR_DQ10, R1 NRST_CORE, R2 NRST, R3 PA14, R4 ANA0, R5 VDDA, R6 VSSA, R8 VSS, R10 VDD, R12 VDD, R14 VDDCORE, R16 VDDQ_DDR, R17 VSS, R18 DDR_BA1, R19 DDR_CKE, R20 DDR_DQ13, R21 DDR_DQ9, R22 DDR_DQS1N, T1 PH0, T2 PH1, T3 PI11, T4 PA3, T5 ANA1, T6 VSSA, T7 VSS, T9 VSS, T11 VSS, T13 VDD, T15 VDDCORE, T17 VDDQ_DDR, T18 DDR_A4, T19 VSS, T20 DDR_DQ11, T21 DDR_DQM1, T22 DDR_DQS1P, U1 PWR_LP, U2 PDR_ON_CORE, U3 PC3, U4 PG3, U5 PA5, U6 VSSA, U7 VSS, U8 PG5, U9 VDD, U10 PC0, U11 PG11, U12 VDD, U13 VSS, U14 VDD, U15 VSS, U16 VDDQ_DDR, U17 VSS, U18 DDR_A8, U19 DDR_A6, U20 VSS, U21 DDR_DQ14, V1 PWR_ON, V2 PDR_ON, V3 PF3, V4 PA1, V5 VSS, V6 PA4, V7 PF14, V8 PF12, V9 PB10, V10 PB13, V11 PH6, V12 PF10, V13 PB2, V14 PD13, V15 OTG_VBUS, V16 VSS, V17 VDDQ_DDR, V18 VSS, V19 VSS, V20 DDR_DQ12, V21 DDR_DQ15, V22 DDR_DQ24, W1 PI10, W2 PH7, W3 PA13, W4 PG2, W5 PG0, W6 PF15, W7 PF13, W8 PF11, W9 PA6, W10 PE7, W11 PE9, W12 PD12, W13 PB6, W14 PE10, W15 PG9, W16 PA12, W17 VSS, W18 VDDQ_DDR, W19 VSS, W20 DDR_DQ25, W21 DDR_DQ31, W22 DDR_DQ30, Y1 PC2, Y2 PE2, Y3 VSS, Y4 PG1, Y5 PB11, Y6 PH3, Y7 VSS, Y8 PG8, Y9 PA7, Y10 VSS, Y11 PG7, Y12 PE8, Y13 VSS_USBHS, Y14 VSS_USBHS, Y15 VSS_USBHS, Y16 PA11, Y17 PA10, Y18 VSS, Y19 VDDQ_DDR, Y20 VSS, Y21 DDR_DQS3P, Y22 DDR_DQS3N

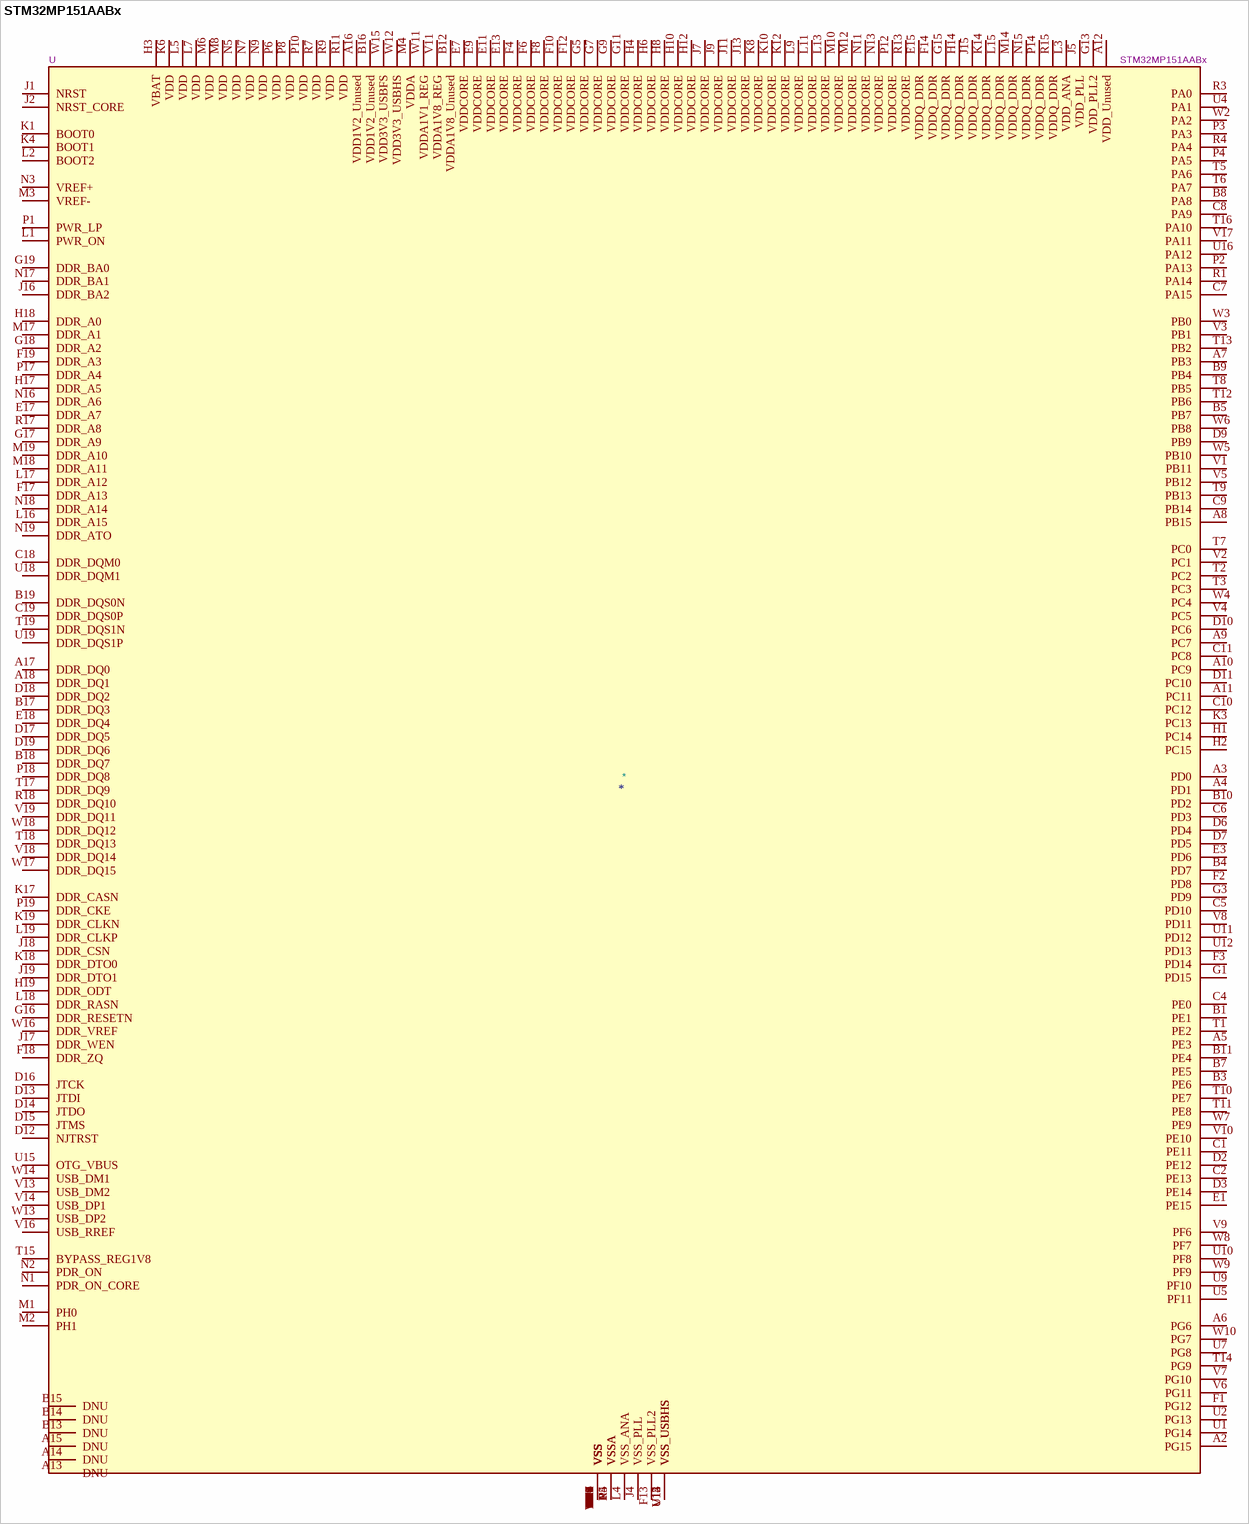
[diagram p26: symbol STM32MP151AABx]

## STM32MP151AABx
designator *  value STM32MP151AABx  Reference: U
STMicroelectronics Arm Cortex-A7 MCU, 0KB flash, 708KB RAM, 98 GPIO, LFBGA354; ki_keywords: Arm Cortex-A7 STM32MP1 STM32MP151; ki_fp_filters: ST*LFBGA*16x16mm*Layout19x19*P0.8mm*; Footprint: Package_BGA:ST_LFBGA-354_16x16mm_Layout19x19_P0.8mm; Datasheet: https://www.st.com/resource/en/datasheet/stm32mp151a.pdf; Description_: STMicroelectronics Arm Cortex-A7 MCU, 0KB flash, 708KB RAM, 98 GPIO, LFBGA354
pins: A1 VSS, A2 PG15, A3 PD0, A4 PD1, A5 PE3, A6 PG6, A7 PB3, A8 PB15, A9 PC7, A10 PC9, A11 PC11, A12 VDD_Unused, A13 DNU, A14 DNU, A15 DNU, A16 VDD1V2_Unused, A17 DDR_DQ0, A18 DDR_DQ1, A19 VSS, B1 PE1, B2 VSS, B3 PE6, B4 PD7, B5 PB7, B6 VSS, B7 PE5, B8 PA8, B9 PB4, B10 PD2, B11 PE4, B12 VDDA1V8_Unused, B13 DNU, B14 DNU, B15 DNU, B16 VDD1V2_Unused, B17 DDR_DQ3, B18 DDR_DQ7, B19 DDR_DQS0N, C1 PE11, C2 PE13, C3 VSS, C4 PE0, C5 PD10, C6 PD3, C7 PA15, C8 PA9, C9 PB14, C10 PC12, C11 PC8, C12 VSS, C13 VSS, C14 VSS, C15 VSS, C16 VSS, C17 VSS, C18 DDR_DQM0, C19 DDR_DQS0P, D1 VSS, D2 PE12, D3 PE14, D4 VSS, D5 VSS, D6 PD4, D7 PD5, D8 VSS, D9 PB9, D10 PC6, D11 PC10, D12 NJTRST, D13 JTDI, D14 JTDO, D15 JTMS, D16 JTCK, D17 DDR_DQ5, D18 DDR_DQ2, D19 DDR_DQ6, E1 PE15, E2 VSS, E3 PD6, E4 VSS, E5 VSS, E6 VSS, E7 VDDCORE, E8 VSS, E9 VDDCORE, E10 VSS, E11 VDDCORE, E12 VSS, E13 VDDCORE, E14 VSS, E15 VDDQ_DDR, E16 VSS, E17 DDR_A7, E18 DDR_DQ4, F1 PG12, F2 PD8, F3 PD14, F4 VDDCORE, F5 VSS, F6 VDDCORE, F7 VSS, F8 VDDCORE, F9 VSS, F10 VDDCORE, F11 VSS, F12 VDDCORE, F13 VSS_PLL2, F14 VDDQ_DDR, F15 VSS, F17 DDR_A13, F18 DDR_ZQ, F19 DDR_A3, G1 PD15, G2 VSS, G3 PD9, G4 VSS, G5 VDDCORE, G6 VSS, G7 VDDCORE, G8 VSS, G9 VDDCORE, G10 VSS, G11 VDDCORE, G12 VSS, G13 VDD_PLL2, G14 VSS, G15 VDDQ_DDR, G16 DDR_RESETN, G17 DDR_A9, G18 DDR_A2, G19 DDR_BA0, H1 PC14, H2 PC15, H3 VBAT, H4 VDDCORE, H5 VSS, H6 VDDCORE, H7 VSS, H8 VDDCORE, H9 VSS, H10 VDDCORE, H11 VSS, H12 VDDCORE, H13 VSS, H14 VDDQ_DDR, H15 VSS, H17 DDR_A5, H18 DDR_A0, H19 DDR_ODT, J1 NRST, J2 NRST_CORE, J3 VSS, J4 VSS_PLL, J5 VDD_PLL, J6 VSS, J7 VDDCORE, J8 VSS, J9 VDDCORE, J10 VSS, J11 VDDCORE, J12 VSS, J13 VDDCORE, J14 VSS, J15 VDDQ_DDR, J16 DDR_BA2, J17 DDR_WEN, J18 DDR_CSN, J19 DDR_DTO1, K1 BOOT0, K2 VSS, K3 PC13, K4 BOOT1, K5 VSS, K6 VDD, K7 VSS, K8 VDDCORE, K9 VSS, K10 VDDCORE, K11 VSS, K12 VDDCORE, K13 VSS, K14 VDDQ_DDR, K15 VSS, K17 DDR_CASN, K18 DDR_DTO0, K19 DDR_CLKN, L1 PWR_ON, L2 BOOT2, L3 VDD_ANA, L4 VSS_ANA, L5 VDD, L6 VSS, L7 VDD, L8 VSS, L9 VDDCORE, L10 VSS, L11 VDDCORE, L12 VSS, L13 VDDCORE, L14 VSS, L15 VDDQ_DDR, L16 DDR_A15, L17 DDR_A12, L18 DDR_RASN, L19 DDR_CLKP, M1 PH0, M2 PH1, M3 VREF-, M4 VDDA, M5 VSS, M6 VDD, M7 VSS, M8 VDD, M9 VSS, M10 VDDCORE, M11 VSS, M12 VDDCORE, M13 VSS, M14 VDDQ_DDR, M15 VSS, M17 DDR_A1, M18 DDR_A11, M19 DDR_A10, N1 PDR_ON_CORE, N2 PDR_ON, N3 VREF+, N4 VSSA, N5 VDD, N6 VSS, N7 VDD, N8 VSS, N9 VDD, N10 VSS, N11 VDDCORE, N12 VSS, N13 VDDCORE, N14 VSS, N15 VDDQ_DDR, N16 DDR_A6, N17 DDR_BA1, N18 DDR_A14, N19 DDR_ATO, P1 PWR_LP, P2 PA13, P3 PA3, P4 PA5, P5 VSSA, P6 VDD, P7 VSS, P8 VDD, P9 VSS, P10 VDD, P11 VSS, P12 VDDCORE, P13 VSS, P14 VDDQ_DDR, P15 VSS, P17 DDR_A4, P18 DDR_DQ8, P19 DDR_CKE, R1 PA14, R2 VSS, R3 PA0, R4 PA4, R5 VSSA, R6 VSS, R7 VDD, R8 VSS, R9 VDD, R10 VSS, R11 VDD, R12 VSS, R13 VDDCORE, R14 VSS, R15 VDDQ_DDR, R16 VSS, R17 DDR_A8, R18 DDR_DQ10, T1 PE2, T2 PC2, T3 PC3, T4 VSS, T5 PA6, T6 PA7, T7 PC0, T8 PB5, T9 PB13, T10 PE7, T11 PE8, T12 PB6, T13 PB2, T14 PG9, T15 BYPASS_REG1V8, T16 PA10, T17 DDR_DQ9, T18 DDR_DQ13, T19 DDR_DQS1N, U1 PG14, U2 PG13, U3 VSS, U4 PA1, U5 PF11, U6 VSS, U7 PG8, U8 VSS, U9 PF10, U10 PF8, U11 PD12, U12 PD13, U13 VSS_USBHS, U14 VSS_USBHS, U15 OTG_VBUS, U16 PA12, U17 VSS, U18 DDR_DQM1, U19 DDR_DQS1P, V1 PB11, V2 PC1, V3 PB1, V4 PC5, V5 PB12, V6 PG11, V7 PG10, V8 PD11, V9 PF6, V10 PE10, V11 VDDA1V8_REG, V12 VSS_USBHS, V13 USB_DM2, V14 USB_DP1, V15 VSS_USBHS, V16 USB_RREF, V17 PA11, V18 DDR_DQ14, V19 DDR_DQ11, W1 VSS, W2 PA2, W3 PB0, W4 PC4, W5 PB10, W6 PB8, W7 PE9, W8 PF7, W9 PF9, W10 PG7, W11 VDDA1V1_REG, W12 VDD3V3_USBHS, W13 USB_DP2, W14 USB_DM1, W15 VDD3V3_USBFS, W16 DDR_VREF, W17 DDR_DQ15, W18 DDR_DQ12, W19 VSS

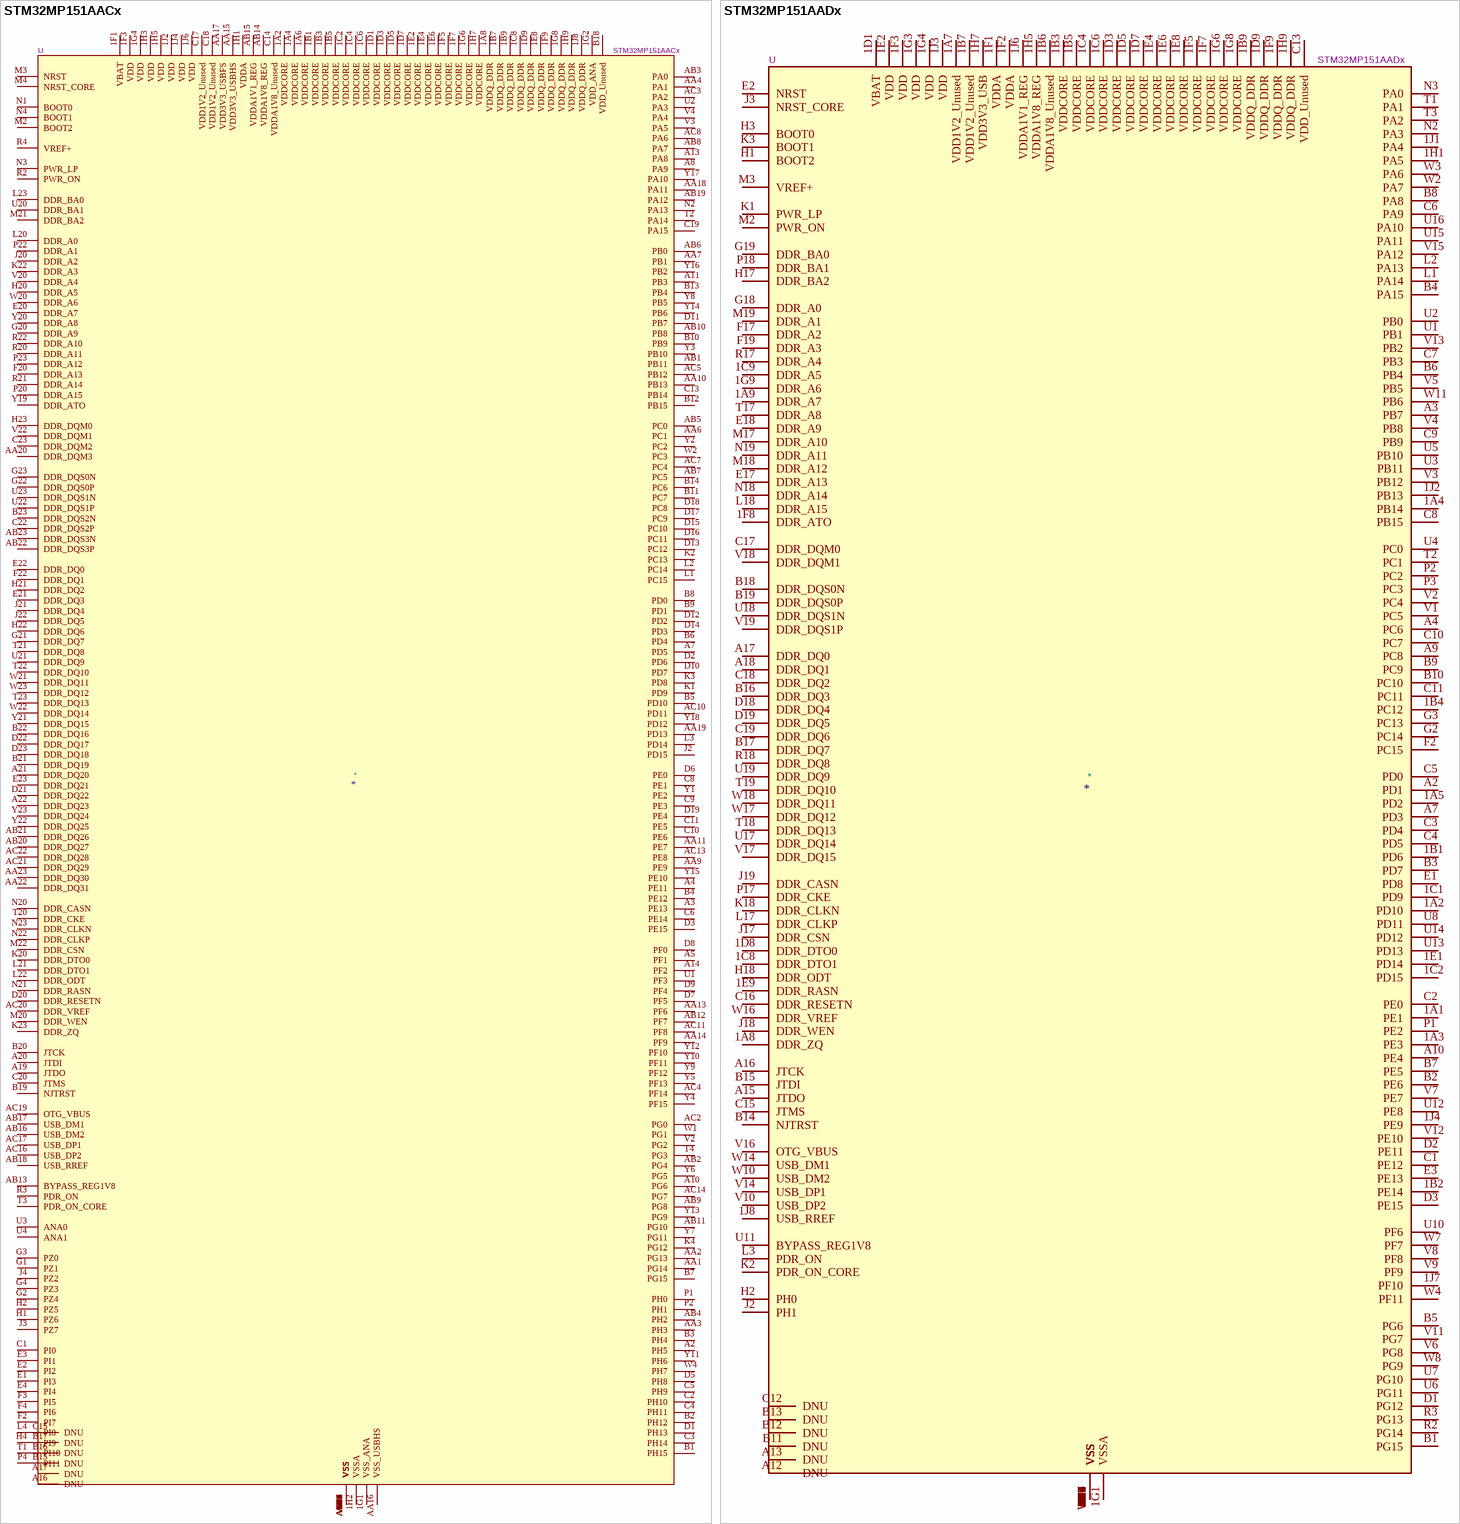
[diagram p27: symbols STM32MP151AACx to STM32MP151AADx]

## STM32MP151AACx
designator *  value STM32MP151AACx  Reference: U
STMicroelectronics Arm Cortex-A7 MCU, 0KB flash, 708KB RAM, 148 GPIO, TFBGA361; ki_keywords: Arm Cortex-A7 STM32MP1 STM32MP151; ki_fp_filters: ST*TFBGA*12x12mm*Layout23x23*P0.5mmP0.65mm*; Footprint: Package_BGA:ST_TFBGA-361_12x12mm_Layout23x23_P0.5mmP0.65mm; Datasheet: https://www.st.com/resource/en/datasheet/stm32mp151a.pdf; Description_: STMicroelectronics Arm Cortex-A7 MCU, 0KB flash, 708KB RAM, 148 GPIO, TFBGA361
pins: 1A2 VDDCORE, 1A3 VSS, 1A4 VDDCORE, 1A5 VSS, 1A6 VDDCORE, 1A7 VSS, 1A8 VDDQ_DDR, 1B1 VDDCORE, 1B2 VSS, 1B3 VDDCORE, 1B4 VSS, 1B5 VDDCORE, 1B6 VSS, 1B7 VDDQ_DDR, 1B8 VSS, 1B9 VDDQ_DDR, 1C1 VSS, 1C2 VDDCORE, 1C3 VSS, 1C4 VDDCORE, 1C5 VSS, 1C6 VDDCORE, 1C7 VSS, 1C8 VDDQ_DDR, 1C9 VSS, 1D1 VDDCORE, 1D2 VSS, 1D3 VDDCORE, 1D4 VSS, 1D5 VDDCORE, 1D6 VSS, 1D7 VDDCORE, 1D8 VSS, 1D9 VDDQ_DDR, 1E1 VSS, 1E2 VDDCORE, 1E3 VSS, 1E4 VDDCORE, 1E5 VSS, 1E6 VDDCORE, 1E7 VSS, 1E8 VDDQ_DDR, 1E9 VSS, 1F1 VBAT, 1F2 VSS, 1F3 VDD, 1F4 VSS, 1F5 VDDCORE, 1F6 VSS, 1F7 VDDCORE, 1F8 VSS, 1F9 VDDQ_DDR, 1G1 VSS_ANA, 1G2 VDD_ANA, 1G3 VSS, 1G4 VDD, 1G5 VSS, 1G6 VDDCORE, 1G7 VSS, 1G8 VDDQ_DDR, 1G9 VSS, 1H1 VDDA, 1H2 VSSA, 1H3 VDD, 1H4 VSS, 1H5 VDD, 1H6 VSS, 1H7 VDDCORE, 1H8 VSS, 1H9 VDDQ_DDR, 1J2 VDD, 1J3 VSS, 1J4 VDD, 1J5 VSS, 1J6 VDD, 1J7 VSS, 1J8 VDDQ_DDR, A1 VSS, A2 PH5, A3 PE13, A4 PE11, A5 PF1, A7 PD5, A8 PA9, A10 PG6, A11 PB3, A13 PA8, A14 PF2, A16 DNU, A17 DNU, A19 JTDO, A20 JTDI, A21 DDR_DQ20, A22 DDR_DQ23, A23 VSS, AA1 PG14, AA2 PG13, AA3 PH3, AA4 PA1, AA5 VSS, AA6 PC1, AA7 PB1, AA8 VSS, AA9 PE9, AA10 PB13, AA11 PE7, AA12 VSS, AA13 PF6, AA14 PF9, AA15 VDD3V3_USBHS, AA16 VSS_USBHS, AA17 VDD3V3_USBFS, AA18 PA11, AA19 PD13, AA20 DDR_DQM3, AA21 VSS, AA22 DDR_DQ31, AA23 DDR_DQ30, AB1 PB11, AB2 PG4, AB3 PA0, AB4 PH2, AB5 PC0, AB6 PB0, AB7 PC5, AB8 PA7, AB9 PG8, AB10 PB8, AB11 PG10, AB12 PF7, AB13 BYPASS_REG1V8, AB14 VDDA1V8_REG, AB15 VDDA1V1_REG, AB16 USB_DM2, AB17 USB_DM1, AB18 USB_RREF, AB19 PA12, AB20 DDR_DQ27, AB21 DDR_DQ26, AB22 DDR_DQS3P, AB23 DDR_DQS3N, AC1 VSS, AC2 PG0, AC3 PA2, AC4 PF14, AC5 PB12, AC7 PC4, AC8 PA6, AC10 PD11, AC11 PF8, AC13 PE8, AC14 PG7, AC16 USB_DP2, AC17 USB_DP1, AC19 OTG_VBUS, AC20 DDR_VREF, AC21 DDR_DQ29, AC22 DDR_DQ28, AC23 VSS, B1 PH15, B2 PH12, B3 PH4, B4 PE12, B5 PD10, B6 PD4, B7 PG15, B8 PD0, B9 PD1, B10 PB9, B11 PC7, B12 PB15, B13 PB4, B14 PC6, B15 DNU, B16 DNU, B17 DNU, B18 VDD_Unused, B19 NJTRST, B20 JTCK, B21 DDR_DQ19, B22 DDR_DQ16, B23 DDR_DQS2N, C1 PI0, C2 PH10, C3 PH14, C4 PH11, C5 PH9, C6 PE14, C7 VSS, C8 PE1, C9 PE3, C10 PE6, C11 PE5, C12 VSS, C13 PB14, C14 VDDA1V8_Unused, C15 DNU, C16 VSS, C17 VDD1V2_Unused, C18 VDD1V2_Unused, C19 PA15, C20 JTMS, C21 VSS, C22 DDR_DQS2P, C23 DDR_DQM2, D1 PH13, D2 PD6, D3 PE15, D4 VSS, D5 PH8, D6 PE0, D7 PF5, D8 PF0, D9 PF4, D10 PD7, D11 PB7, D12 PD2, D13 PC12, D14 PD3, D15 PC10, D16 PC11, D17 PC9, D18 PC8, D19 PE4, D20 DDR_RESETN, D21 DDR_DQ22, D22 DDR_DQ17, D23 DDR_DQ18, E1 PI3, E2 PI2, E3 PI1, E4 PI4, E20 DDR_A7, E21 DDR_DQ3, E22 DDR_DQ0, E23 DDR_DQ21, F2 PI7, F3 PI5, F4 PI6, F20 DDR_A13, F21 VSS, F22 DDR_DQ1, G1 PZ1, G2 PZ4, G3 PZ0, G4 PZ3, G20 DDR_A9, G21 DDR_DQ7, G22 DDR_DQS0P, G23 DDR_DQS0N, H1 PZ6, H2 PZ5, H3 VSS, H4 PI9, H20 DDR_A5, H21 DDR_DQ2, H22 DDR_DQ6, H23 DDR_DQM0, J2 PD15, J3 PZ7, J4 PZ2, J20 DDR_A2, J21 DDR_DQ4, J22 DDR_DQ5, K1 PD9, K2 PC13, K3 PD8, K4 PG12, K20 DDR_DTO0, K21 VSS, K22 DDR_A3, K23 DDR_ZQ, L1 PC15, L2 PC14, L3 PD14, L4 PI8, L20 DDR_A0, L21 DDR_DTO1, L22 DDR_ODT, L23 DDR_BA0, M2 BOOT2, M3 NRST, M4 NRST_CORE, M20 DDR_WEN, M21 DDR_BA2, M22 DDR_CSN, N1 BOOT0, N2 PA13, N3 PWR_LP, N4 BOOT1, N20 DDR_CASN, N21 DDR_RASN, N22 DDR_CLKP, N23 DDR_CLKN, P1 PH0, P2 PH1, P3 VSS, P4 PI11, P20 DDR_A15, P21 VSS, P22 DDR_A1, P23 DDR_A12, R2 PWR_ON, R3 PDR_ON, R4 VREF+, R20 DDR_A11, R21 DDR_A14, R22 DDR_A10, T1 PI10, T2 PA14, T3 PDR_ON_CORE, T4 PG3, T20 DDR_CKE, T21 DDR_DQ8, T22 DDR_DQ10, T23 DDR_DQ13, U1 PF3, U2 PA3, U3 ANA0, U4 ANA1, U20 DDR_BA1, U21 DDR_DQ9, U22 DDR_DQS1P, U23 DDR_DQS1N, V2 PG2, V3 PA5, V4 PA4, V20 DDR_A4, V21 VSS, V22 DDR_DQM1, W1 PG1, W2 PC3, W3 VSS, W4 PH7, W20 DDR_A6, W21 DDR_DQ11, W22 DDR_DQ14, W23 DDR_DQ12, Y1 PE2, Y2 PC2, Y3 PB10, Y4 PF15, Y5 PF13, Y6 PG5, Y7 PG11, Y8 PB5, Y9 PF12, Y10 PF11, Y11 PH6, Y12 PF10, Y13 PG9, Y14 PB6, Y15 PE10, Y16 PB2, Y17 PA10, Y18 PD12, Y19 DDR_ATO, Y20 DDR_A8, Y21 DDR_DQ15, Y22 DDR_DQ25, Y23 DDR_DQ24

## STM32MP151AADx
designator *  value STM32MP151AADx  Reference: U
STMicroelectronics Arm Cortex-A7 MCU, 0KB flash, 708KB RAM, 98 GPIO, TFBGA257; ki_keywords: Arm Cortex-A7 STM32MP1 STM32MP151; ki_fp_filters: ST*TFBGA*10x10mm*Layout19x19*P0.5mmP0.65mm*; Footprint: Package_BGA:ST_TFBGA-257_10x10mm_Layout19x19_P0.5mmP0.65mm; Datasheet: https://www.st.com/resource/en/datasheet/stm32mp151a.pdf; Description_: STMicroelectronics Arm Cortex-A7 MCU, 0KB flash, 708KB RAM, 98 GPIO, TFBGA257
pins: 1A1 PE1, 1A2 PD10, 1A3 PE3, 1A4 PB14, 1A5 PD2, 1A6 VSS, 1A7 VDD1V2_Unused, 1A8 DDR_ZQ, 1A9 DDR_A7, 1B1 PD6, 1B2 PE14, 1B3 VDDCORE, 1B4 PC12, 1B5 VDDCORE, 1B6 VDDA1V8_Unused, 1B7 VDD1V2_Unused, 1B8 VSS, 1B9 VDDQ_DDR, 1C1 PD9, 1C2 PD15, 1C3 VSS, 1C4 VDDCORE, 1C5 VSS, 1C6 VDDCORE, 1C7 VSS, 1C8 DDR_DTO1, 1C9 DDR_A5, 1D1 VBAT, 1D2 VSS, 1D3 VDDCORE, 1D4 VSS, 1D5 VDDCORE, 1D6 VSS, 1D7 VDDCORE, 1D8 DDR_DTO0, 1D9 VDDQ_DDR, 1E1 PD14, 1E2 VDD, 1E3 VSS, 1E4 VDDCORE, 1E5 VSS, 1E6 VDDCORE, 1E7 VSS, 1E8 VDDCORE, 1E9 DDR_RASN, 1F1 VDDA, 1F2 VDDA, 1F3 VDD, 1F4 VSS, 1F5 VDDCORE, 1F6 VSS, 1F7 VDDCORE, 1F8 DDR_ATO, 1F9 VDDQ_DDR, 1G1 VSSA, 1G2 VSS, 1G3 VDD, 1G4 VDD, 1G5 VSS, 1G6 VDDCORE, 1G7 VSS, 1G8 VDDCORE, 1G9 DDR_A6, 1H1 PA5, 1H2 VSS, 1H3 VSS, 1H4 VSS, 1H5 VDDA1V8_REG, 1H6 VSS, 1H7 VDD3V3_USB, 1H8 VSS, 1H9 VDDQ_DDR, 1J1 PA4, 1J2 PB13, 1J3 VDD, 1J4 PE9, 1J5 VSS, 1J6 VDDA1V1_REG, 1J7 PF10, 1J8 USB_RREF, 1J9 VSS, A1 VSS, A2 PD1, A3 PB7, A4 PC6, A6 VSS, A7 PD3, A9 PC8, A10 PE4, A12 DNU, A13 DNU, A15 JTDO, A16 JTCK, A17 DDR_DQ0, A18 DDR_DQ1, A19 VSS, B1 PG15, B2 PE6, B3 PD7, B4 PA15, B5 PG6, B6 PB4, B7 PE5, B8 PA8, B9 PC9, B10 PC10, B11 DNU, B12 DNU, B13 DNU, B14 NJTRST, B15 JTDI, B16 DDR_DQ3, B17 DDR_DQ7, B18 DDR_DQS0N, B19 DDR_DQS0P, C1 PE12, C2 PE0, C3 PD4, C4 PD5, C5 PD0, C6 PA9, C7 PB3, C8 PB15, C9 PB9, C10 PC7, C11 PC11, C12 DNU, C13 VDD_Unused, C14 VSS, C15 JTMS, C16 DDR_RESETN, C17 DDR_DQM0, C18 DDR_DQ2, C19 DDR_DQ6, D1 PG12, D2 PE11, D3 PE15, D17 VSS, D18 DDR_DQ4, D19 DDR_DQ5, E1 PD8, E2 NRST, E3 PE13, E17 DDR_A13, E18 DDR_A9, F2 PC15, F3 VSS, F17 DDR_A2, F18 VSS, F19 DDR_A3, G1 VSS, G2 PC14, G3 PC13, G17 VSS, G18 DDR_A0, G19 DDR_BA0, H1 BOOT2, H2 PH0, H3 BOOT0, H17 DDR_BA2, H18 DDR_ODT, J2 PH1, J3 NRST_CORE, J17 DDR_CSN, J18 DDR_WEN, J19 DDR_CASN, K1 PWR_LP, K2 PDR_ON_CORE, K3 BOOT1, K17 VSS, K18 DDR_CLKN, K19 VSS, L1 PA14, L2 PA13, L3 PDR_ON, L17 DDR_CLKP, L18 DDR_A15, M2 PWR_ON, M3 VREF+, M17 DDR_A10, M18 DDR_A12, M19 DDR_A1, N1 VSS, N2 PA3, N3 PA0, N17 VSS, N18 DDR_A14, N19 DDR_A11, P1 PE2, P2 PC2, P3 PC3, P17 DDR_CKE, P18 DDR_BA1, R2 PG14, R3 PG13, R17 DDR_A4, R18 DDR_DQ8, R19 VSS, T1 PA1, T2 PC1, T3 PA2, T17 DDR_A8, T18 DDR_DQ13, T19 DDR_DQ10, U1 PB1, U2 PB0, U3 PB11, U4 PC0, U5 PB10, U6 PG11, U7 PG10, U8 PD11, U9 VSS, U10 PF6, U11 BYPASS_REG1V8, U12 PE8, U13 PD13, U14 PD12, U15 PA11, U16 PA10, U17 DDR_DQ14, U18 DDR_DQS1N, U19 DDR_DQ9, V1 PC5, V2 PC4, V3 PB12, V4 PB8, V5 PB5, V6 PG8, V7 PE7, V8 PF8, V9 PF9, V10 USB_DP2, V11 PG7, V12 PE10, V13 PB2, V14 USB_DP1, V15 PA12, V16 OTG_VBUS, V17 DDR_DQ15, V18 DDR_DQM1, V19 DDR_DQS1P, W1 VSS, W2 PA7, W3 PA6, W4 PF11, W5 VSS, W7 PF7, W8 PG9, W10 USB_DM2, W11 PB6, W13 VSS, W14 USB_DM1, W16 DDR_VREF, W17 DDR_DQ12, W18 DDR_DQ11, W19 VSS

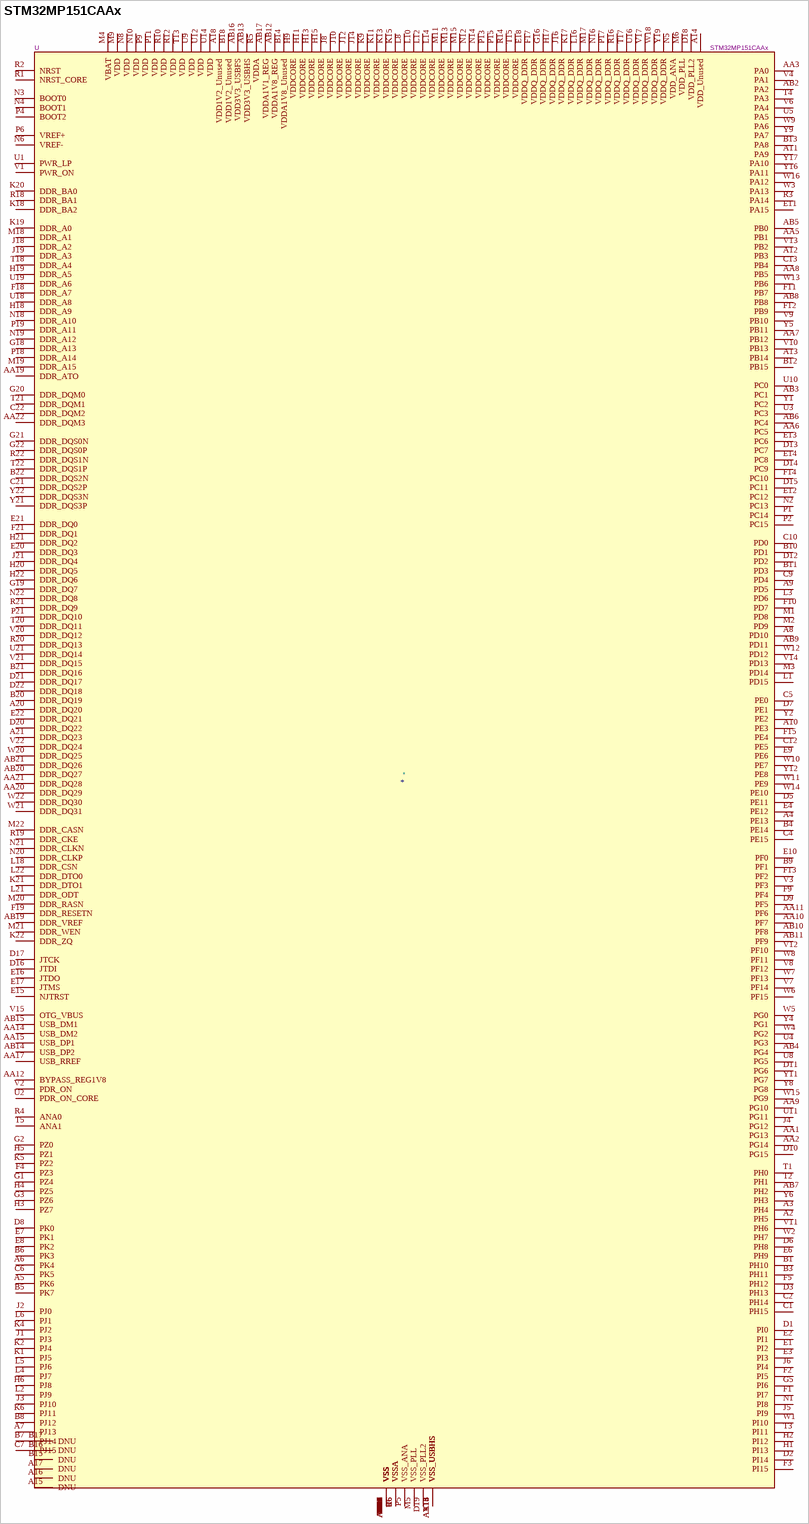
[diagram p28: symbol STM32MP151CAAx]